# Altium schematic symbol library Schem_Lib_DaanHeetkamp..SchLib: 268 symbols (part 2 of 2)
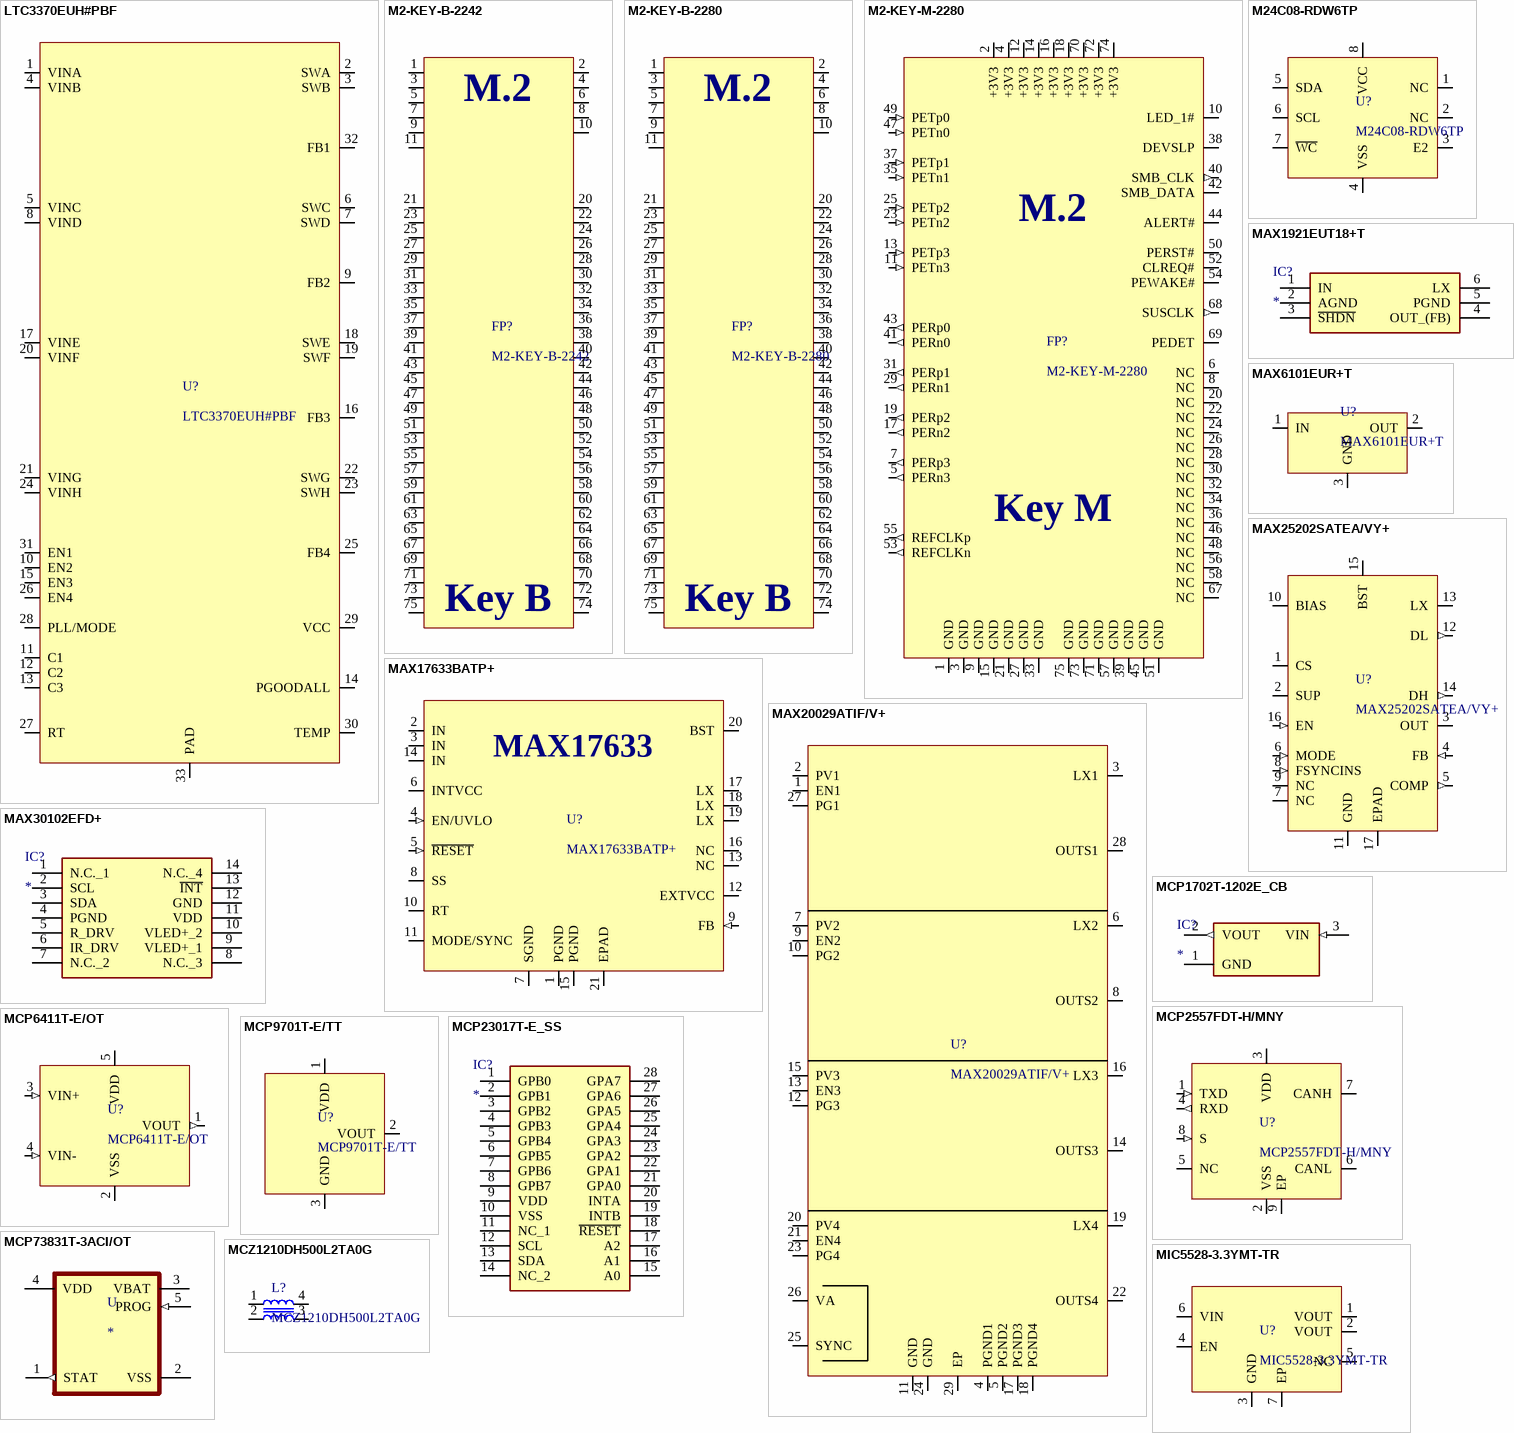
[diagram p13: symbols LTC3370EUH#PBF to MIC5528-3.3YMT-TR]

## MCP2557FDT-H/MNY
designator U?
CAN FD Transceiver with Silent Mode; Manufacturer: Microchip; Manufacturer Part Number: CAN FD Transceiver with Silent Mode
footprint TDFN-8
pins: 1 TXD (in), 2 VSS (power), 3 VDD (power), 4 RXD (out), 5 NC, 6 CANL (io), 7 CANH (io), 8 S (in), 9 EP (power)

## MCP6411T-E/OT
designator U?
Op Amp 1 MHz Rail-to-Rail Input/Output 1.7V to 5.5V 0.5V/us SOT-23-5; Manufacturer: Microchip; Manufacturer Part Number: MCP6411T-E/OT
footprint SOT-23-5 (SOT23, 5-Leads, Body 2,90x2,80mm, Pitch 0,95mm, IPC Medium Density)
pins: 1 VOUT (out), 2 VSS (power), 3 VIN+ (in), 4 VIN- (in), 5 VDD (power)

## MCP9701T-E/TT
designator U?
Temperature Sensor Analog -10 to +125 deg C SOT-23-3; Manufacturer: Microchip; Manufacturer Part Number: MCP9701T-E/TT
footprint SOT-23-3
pins: 1 VDD, 2 VOUT, 3 GND

## MCP23017T-E_SS
designator IC?
16-bit IO/Expander, I2C, Integrated Circuit; Manufacturer_Name: Microchip; Manufacturer_Part_Number: MCP23017T-E/SS; Datasheet Link: https://datasheet.datasheetarchive.com/originals/distributors/SFDatasheet-4/sf-00090057.pdf; Height: 2mm; Mouser Part Number: 579-MCP23017T-E/SS; Mouser Price/Stock: https://www.mouser.co.uk/ProductDetail/Microchip-Technology/MCP23017T-E-SS?qs=usxtMOJb1Rz2FhASIaFluQ%3D%3D; Arrow Part Number: MCP23017T-E/SS; Arrow Price/Stock: https://www.arrow.com/en/products/mcp23017t-ess/microchip-technology?region=nac
footprint SOP65P780X200-28N
pins: 1 GPB0, 2 GPB1, 3 GPB2, 4 GPB3, 5 GPB4, 6 GPB5, 7 GPB6, 8 GPB7, 9 VDD, 10 VSS, 11 NC_1, 12 SCL, 13 SDA, 14 NC_2, 15 A0, 16 A1, 17 A2, 18 ~{RESET}, 19 INTB, 20 INTA, 21 GPA0, 22 GPA1, 23 GPA2, 24 GPA3, 25 GPA4, 26 GPA5, 27 GPA6, 28 GPA7

## MCP73831T-3ACI/OT
designator U
Charger IC Lithium Ion/Polymer SOT-23-5; MP: MCP73831T-3ACI/OT; MF: Microchip; Package: SOT-23-5 Microchip; SnapEDA_Link: https://www.snapeda.com/parts/MCP73831T-3ACI/OT/Microchip/view-part/1099789/?ref=snap; Mouser-Purchase-URL: https://snapeda.com/shop?store=Mouser&id=1099789; Value: *; Arrow_Electronics-Purchase-URL: https://snapeda.com/shop?store=Arrow+Electronics&id=1099789
footprint SOT95P270X145-5N
pins: 1 STAT (out), 2 VSS (power), 3 VBAT (power), 4 VDD (power), 5 PROG (in)

## MCZ1210DH500L2TA0G
designator L?
Common Mode Chokes / Filters 0504 50ohms 2 Lines HDMI, DVI, USB3.0; Manufacturer: TDK; Manufacturer Part Number: MCZ1210DH500L2TA0G
footprint MCZ1210DH
pins: 1, 2, 3, 4

## MIC5528-3.3YMT-TR
designator U?
LDO Regulator 3V3 500mA 2.5V<Vin<5.5V; Manufacturer: Microchip; Manufacturer Part Number: MIC5528-3.3YMT-TR
footprint TDFN-6
pins: 1 VOUT, 2 VOUT, 3 GND, 4 EN, 5 NC, 6 VIN, 7 EP

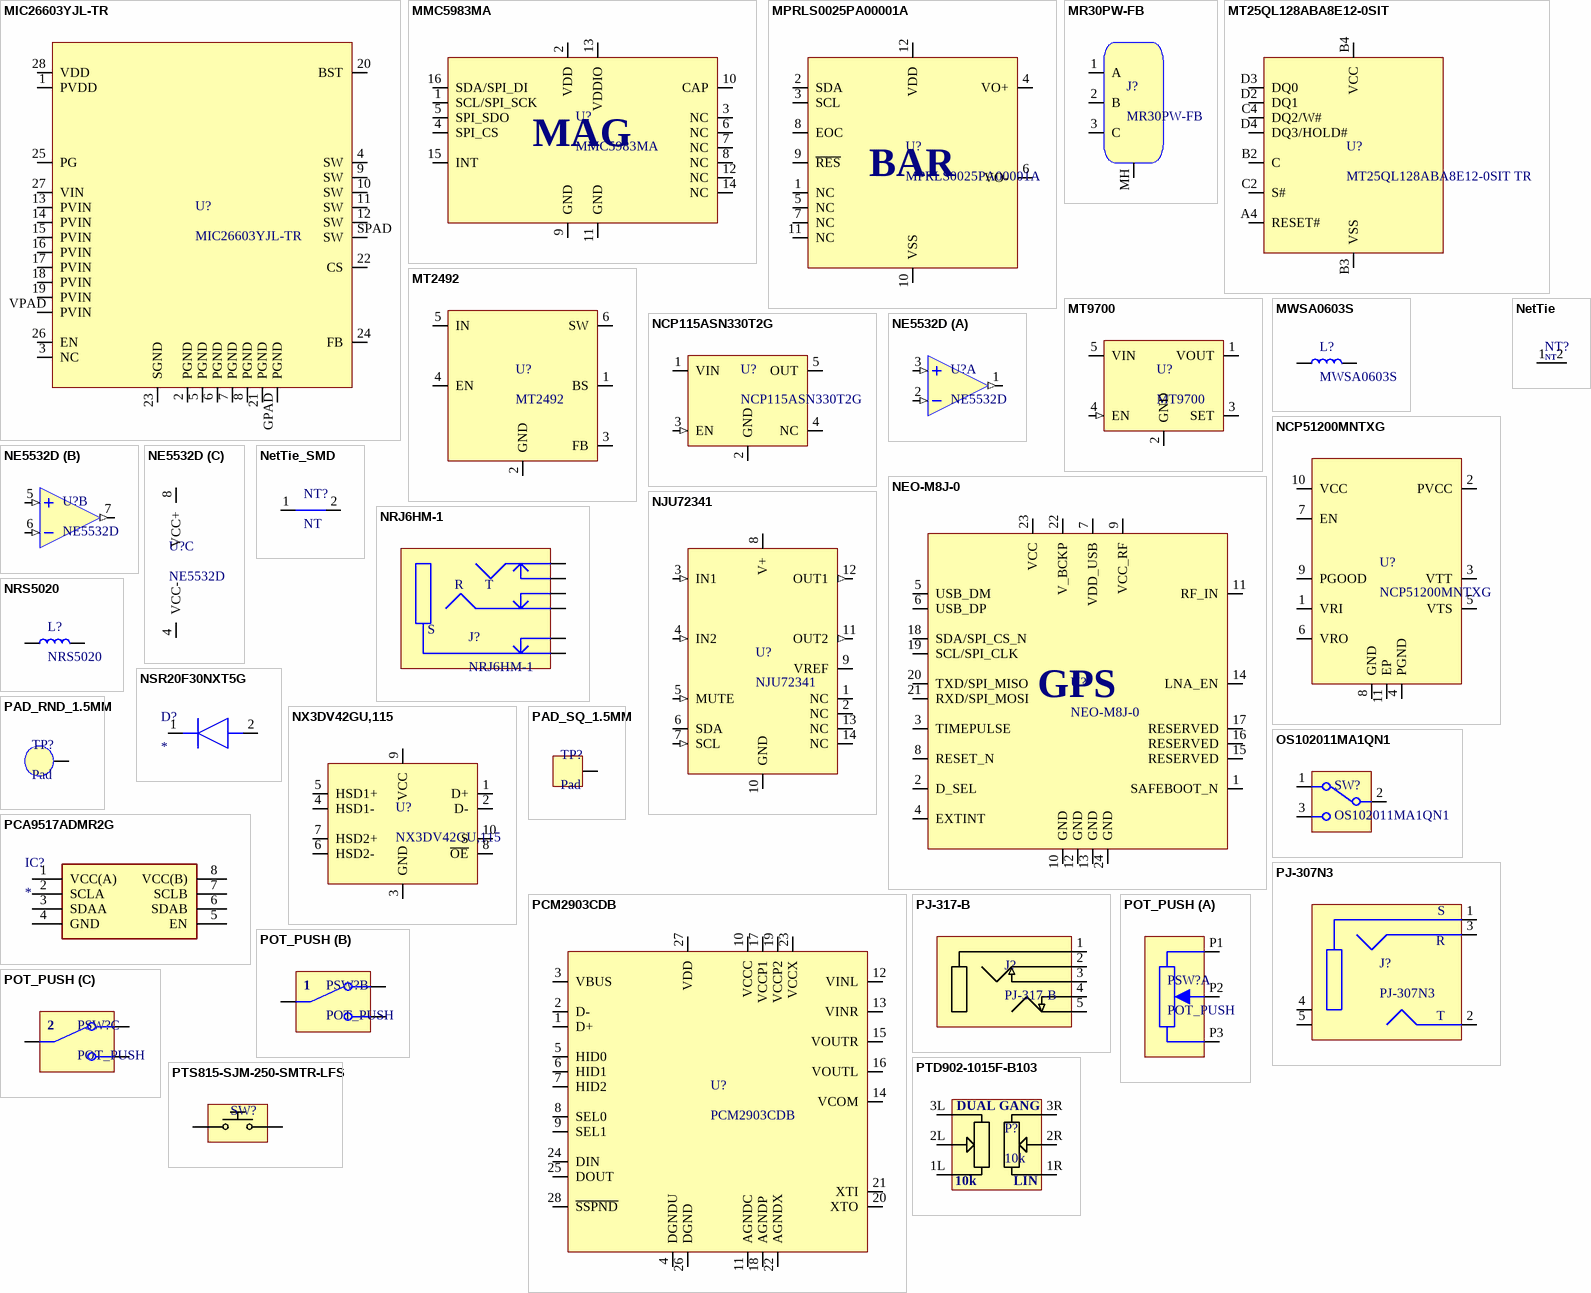
[diagram p6: symbols MIC26603YJL-TR to PTS815-SJM-250-SMTR-LFS]

## MIC26603YJL-TR
designator U?
DC/DC Buck Regulator 28V, 6A; Manufacturer: Microchip; Manufacturer Part Number: MIC26603YJL-TR
footprint MIC26603YJL-TR
pins: 1 PVDD, 2 PGND, 3 NC, 4 SW, 5 PGND, 6 PGND, 7 PGND, 8 PGND, 9 SW, 10 SW, 11 SW, 12 SW, 13 PVIN, 14 PVIN, 15 PVIN, 16 PVIN, 17 PVIN, 18 PVIN, 19 PVIN, 20 BST, 21 PGND, 22 CS, 23 SGND, 24 FB, 25 PG, 26 EN, 27 VIN, 28 VDD, GPAD PGND, SPAD SW, VPAD PVIN

## MMC5983MA
designator U?
±8 Gauss, High Performance 3-axis Magnetic Sensor I2C/SPI; Manufacturer: MEMSIC; Manufacturer Part Number: MMC5983MA
footprint MMC5983MA-LGA
pins: 1 SCL/SPI_SCK, 2 VDD, 3 NC, 4 SPI_CS, 5 SPI_SDO, 6 NC, 7 NC, 8 NC, 9 GND, 10 CAP, 11 GND, 12 NC, 13 VDDIO, 14 NC, 15 INT, 16 SDA/SPI_DI
text: MAG

## MPRLS0025PA00001A
designator U?
Board Mount Absolute Pressure Sensor Honeywell I2C 0 to 25 psi; Manufacturer: Honeywell; Manufacturer Part Number: MPRLS0025PA00001A
footprint MPR-SMD-12
pins: 1 NC, 2 SDA, 3 SCL, 4 VO+, 5 NC, 6 VO-, 7 NC, 8 EOC, 9 ~{RES}, 10 VSS, 11 NC, 12 VDD
text: BAR

## MR30PW-FB
designator J?
MR30 Connector Female 3 Position THT PCB-Mount 15A; Manufacturer: AMASS; Manufacturer Part Number: MR30PW-FB
footprint MR30PW-FB
pins: 1 A, 2 B, 3 C, MH

## MT25QL128ABA8E12-0SIT
designator U?, comment MT25QL128ABA8E12-0SIT TR
NOR Flash QSPI 128 Mbit T-PBGA-24; Manufacturer: Micron Technology; Manufacturer Part Number: MT25QL128ABA8E12-0SIT TR
footprint T-PBGA-5x5-6x8-24
pins: A4 RESET#, B2 C, B3 VSS, B4 VCC, C2 S#, C4 DQ2/W#, D2 DQ1, D3 DQ0, D4 DQ3/HOLD#

## MT2492
designator U?
600KHz, 16V，2A Synchronous / Step-Down Converter; Manufacturer: Aerosemi; Manufacturer Part Number: MT2492
footprint SOT-23-6
pins: 1 BS, 2 GND, 3 FB, 4 EN, 5 IN, 6 SW

## MT9700
designator U?
Adjustable Current-Limited Power Distribution Switch; Manufacturer: Aerosemi; Manufacturer Part Number: MT9700
footprint SOT-23-5 (SOT23, 5-Leads, Body 2,90x2,80mm, Pitch 0,95mm, IPC Medium Density)
pins: 1 VOUT (power), 2 GND (power), 3 SET, 4 EN (in), 5 VIN (power)

## MWSA0603S
designator L?
Power Inductor SMD Sunlord MWSA0603S; Manufacturer Part Number: MWSA0603S-; Manufacturer: Sunlord
footprint MWSA0603S
pins: 1, 2

## NCP115ASN330T2G
designator U?
LDO Regulator - High PSRR 300 mA 3.3V TSOP-5; Manufacturer: ON Semiconductor; Manufacturer Part Number: NCP115ASN330T2G
footprint TSOT25 (SOT23, 5-Leads, Body 2.90x2.80mm, Pitch 0.95mm, IPC Medium Density)
pins: 1 VIN (power), 2 GND (power), 3 EN (in), 4 NC, 5 OUT (power)

## NCP51200MNTXG
designator U?
Linear Voltage Regulator / 3A for DDR1, DDR2, DDR3, / LPDDR3, DDR4 VTT / Termination; Manufacturer: onsemi; Manufacturer Part Number: NCP51200MNTXG
footprint DFNW10-3x3-0_5P
pins: 1 VRI, 2 PVCC, 3 VTT, 4 PGND, 5 VTS, 6 VRO, 7 EN, 8 GND, 9 PGOOD, 10 VCC, 11 EP

## NE5532D
designator U?
Dual Low-Noise Operational Amplifiers; Manufacturer: Texas Instruments; Manufacturer Part Number: NE5532D
footprint SOIC-8 (SOIC, 8-Leads, Body 4.91x3.90mm, Pitch 1.27mm, IPC Medium Density)
part A pins: 1 1OUT (out), 2 1IN- (in), 3 1IN+ (in)
part B pins: 5 2IN+ (in), 6 2IN- (in), 7 2OUT (out)
part C pins: 4 VCC-, 8 VCC+

## NEO-M8J-0
designator U?
u-blox M8 concurrent GNSS module; Manufacturer: u-blox; Manufacturer Part Number: NEO-M8J-0
footprint NEO-M8
pins: 1 SAFEBOOT_N, 2 D_SEL, 3 TIMEPULSE, 4 EXTINT, 5 USB_DM, 6 USB_DP, 7 VDD_USB, 8 RESET_N, 9 VCC_RF, 10 GND, 11 RF_IN, 12 GND, 13 GND, 14 LNA_EN, 15 RESERVED, 16 RESERVED, 17 RESERVED, 18 SDA/SPI_CS_N, 19 SCL/SPI_CLK, 20 TXD/SPI_MISO, 21 RXD/SPI_MOSI, 22 V_BCKP, 23 VCC, 24 GND
text: GPS

## NetTie
designator NT?, comment NT  (value not drawn)  (net tie, no BOM)
Net Tie
footprint NETTIE
pins: 1, 2

## NetTie_SMD
designator NT?, comment NT  (net tie, no BOM)
Net Tie SMD
footprint NETTIE_SMD
pins: 1, 2

## NJU72341
designator U?
2-Channel Audio Volume Control I2C; Manufacturer: Nisshinbo; Manufacturer Part Number: NJU72341V-TE2
footprint SSOP-14
pins: 1 NC, 2 NC, 3 IN1 (in), 4 IN2 (in), 5 MUTE (in), 6 SDA (io), 7 SCL (in), 8 V+ (power), 9 VREF (power), 10 GND (power), 11 OUT2 (out), 12 OUT1 (out), 13 NC, 14 NC

## NRJ6HM-1
designator J?
1/4" Stereo Jack, TRS Switched; Manufacturer: Neutrik; Manufacturer Part Number: NRJ6HM-1
footprint NRJ6HM-1
pins: R, RN, S, SN, T, TN

## NRS5020
designator L?
NRS5020 SMD Power Inductor Taiyo Yuden; Manufacturer: Taiyo Yuden; Manufacturer Part Number: NRS5020
footprint NRS5020
pins: 1, 2

## NSR20F30NXT5G
designator D?
Diode; Manufacturer_Name: onsemi; Manufacturer_Part_Number: NSR20F30NXT5G; Datasheet Link: http://www.onsemi.com/pub/Collateral/NSR20F30-D.PDF; Mouser Part Number: 863-NSR20F30NXT5G; Mouser Price/Stock: https://www.mouser.co.uk/ProductDetail/onsemi/NSR20F30NXT5G?qs=3ezCrKCRT5K%2FARb%252BJ8n8Hg%3D%3D; Arrow Part Number: NSR20F30NXT5G; Arrow Price/Stock: https://www.arrow.com/en/products/nsr20f30nxt5g/on-semiconductor?region=nac
footprint DSN2_1
pins: 1 K, 2 A

## NX3DV42GU,115
designator U?
USB2.0 HS DPDT Switch; Manufacturer: NXP Semiconductors; Manufacturer Part Number: NX3DV42GU,115
footprint XQFN-10_SOT1160-1
pins: 1 D+, 2 D-, 3 GND, 4 HSD1-, 5 HSD1+, 6 HSD2-, 7 HSD2+, 8 ~{OE}, 9 VCC, 10 S

## OS102011MA1QN1
designator SW?
Slide Switch SPDT Horizontal THT; Manufacturer: C&K; Manufacturer Part Number: OS102011MA1QN1
footprint OS102011MA1QN1
pins: 1, 2 COM, 3

## PAD_RND_1.5MM
designator TP?, comment Pad
Test Point Round 1.5mm
footprint PAD_RND_1.5MM
pins: 1

## PAD_SQ_1.5MM
designator TP?, comment Pad
Test Point Square 2mm
footprint PAD_SQ_1.5MM
pins: 1

## PCA9517ADMR2G
designator IC?
Integrated Circuit; Manufacturer_Name: onsemi; Manufacturer_Part_Number: PCA9517ADMR2G; Datasheet Link: https://www.arrow.com/en/products/pca9517admr2g/on-semiconductor; Height: 1.1mm; Mouser Part Number: 863-PCA9517ADMR2G; Mouser Price/Stock: https://www.mouser.co.uk/ProductDetail/onsemi/PCA9517ADMR2G?qs=tCMd4XlZ%2FiBws0nQ3cmpKw%3D%3D; Arrow Part Number: PCA9517ADMR2G; Arrow Price/Stock: https://www.arrow.com/en/products/pca9517admr2g/on-semiconductor?region=nac
footprint SOP65P490X110-8N
pins: 1 VCC(A), 2 SCLA, 3 SDAA, 4 GND, 5 EN, 6 SDAB, 7 SCLB, 8 VCC(B)

## PCM2903CDB
designator U?
Stereo USB1.1 CODEC with line-out and S/PDIF I/O, Self-powered (HID Interface); Manufacturer: Texas Instruments; Manufacturer Part Number: PCM2903CDB
footprint SSOP-28
pins: 1 D+, 2 D-, 3 VBUS, 4 DGNDU, 5 HID0, 6 HID1, 7 HID2, 8 SEL0, 9 SEL1, 10 VCCC, 11 AGNDC, 12 VINL, 13 VINR, 14 VCOM, 15 VOUTR, 16 VOUTL, 17 VCCP1, 18 AGNDP, 19 VCCP2, 20 XTO, 21 XTI, 22 AGNDX, 23 VCCX, 24 DIN, 25 DOUT, 26 DGND, 27 VDD, 28 ~{SSPND}

## PJ-307N3
designator J?
3.5mm Headphone Jack THT; Manufacturer: XKB Connectivity; Manufacturer Part Number: PJ-307N3
footprint PJ-307N3
pins: 1 Sleeve, 2 Tip, 3 Ring, 4 NC, 5 NC
text: S; R; T

## PJ-317-B
designator J?
3.5mm 5-Position Audio Jack Horizontal Female THT; Manufacturer: XKB; Manufacturer Part Number: PJ-317-B
footprint PJ-317-B
pins: 1, 2, 3, 4, 5

## POT_PUSH
designator PSW?
Potentiometer Push-Pull/Push-Push Through-Hole Generic; Manufacturer: *; Manufacturer Part Number: *
footprint POT_PUSH
part A pins: P1 1, P2 2, P3 3
part B pins: SW1COM COM, SW1NC NC, SW1NO NO
part C pins: SW2COM COM, SW2NC NC, SW2NO NO

## PTD902-1015F-B103
designator P?, comment 10k
Potentiometer Horizontal 10k Dual Gang Linear Taper 10% THT PCB-Mount; Manufacturer: Bourns; Manufacturer Part Number: PTD902-1015F-B103
footprint PTD902-XX15F
pins: 1L 1, 1R 1, 2L 2, 2R 2, 3L 3, 3R 3
text: DUAL GANG; LIN

## PTS815-SJM-250-SMTR-LFS
designator SW?, comment Tactile Switch  (value not drawn)
Tactile Switches Tact Switch, 12 VDC, 50 mA, 4.2x3.2, 2.5mm H, 180gf, J leadspp SPST; Manufacturer: C&K Switches; Manufacturer Part Number: PTS815 SJM 250 SMTR LFS
footprint PTS815
pins: 1, 2

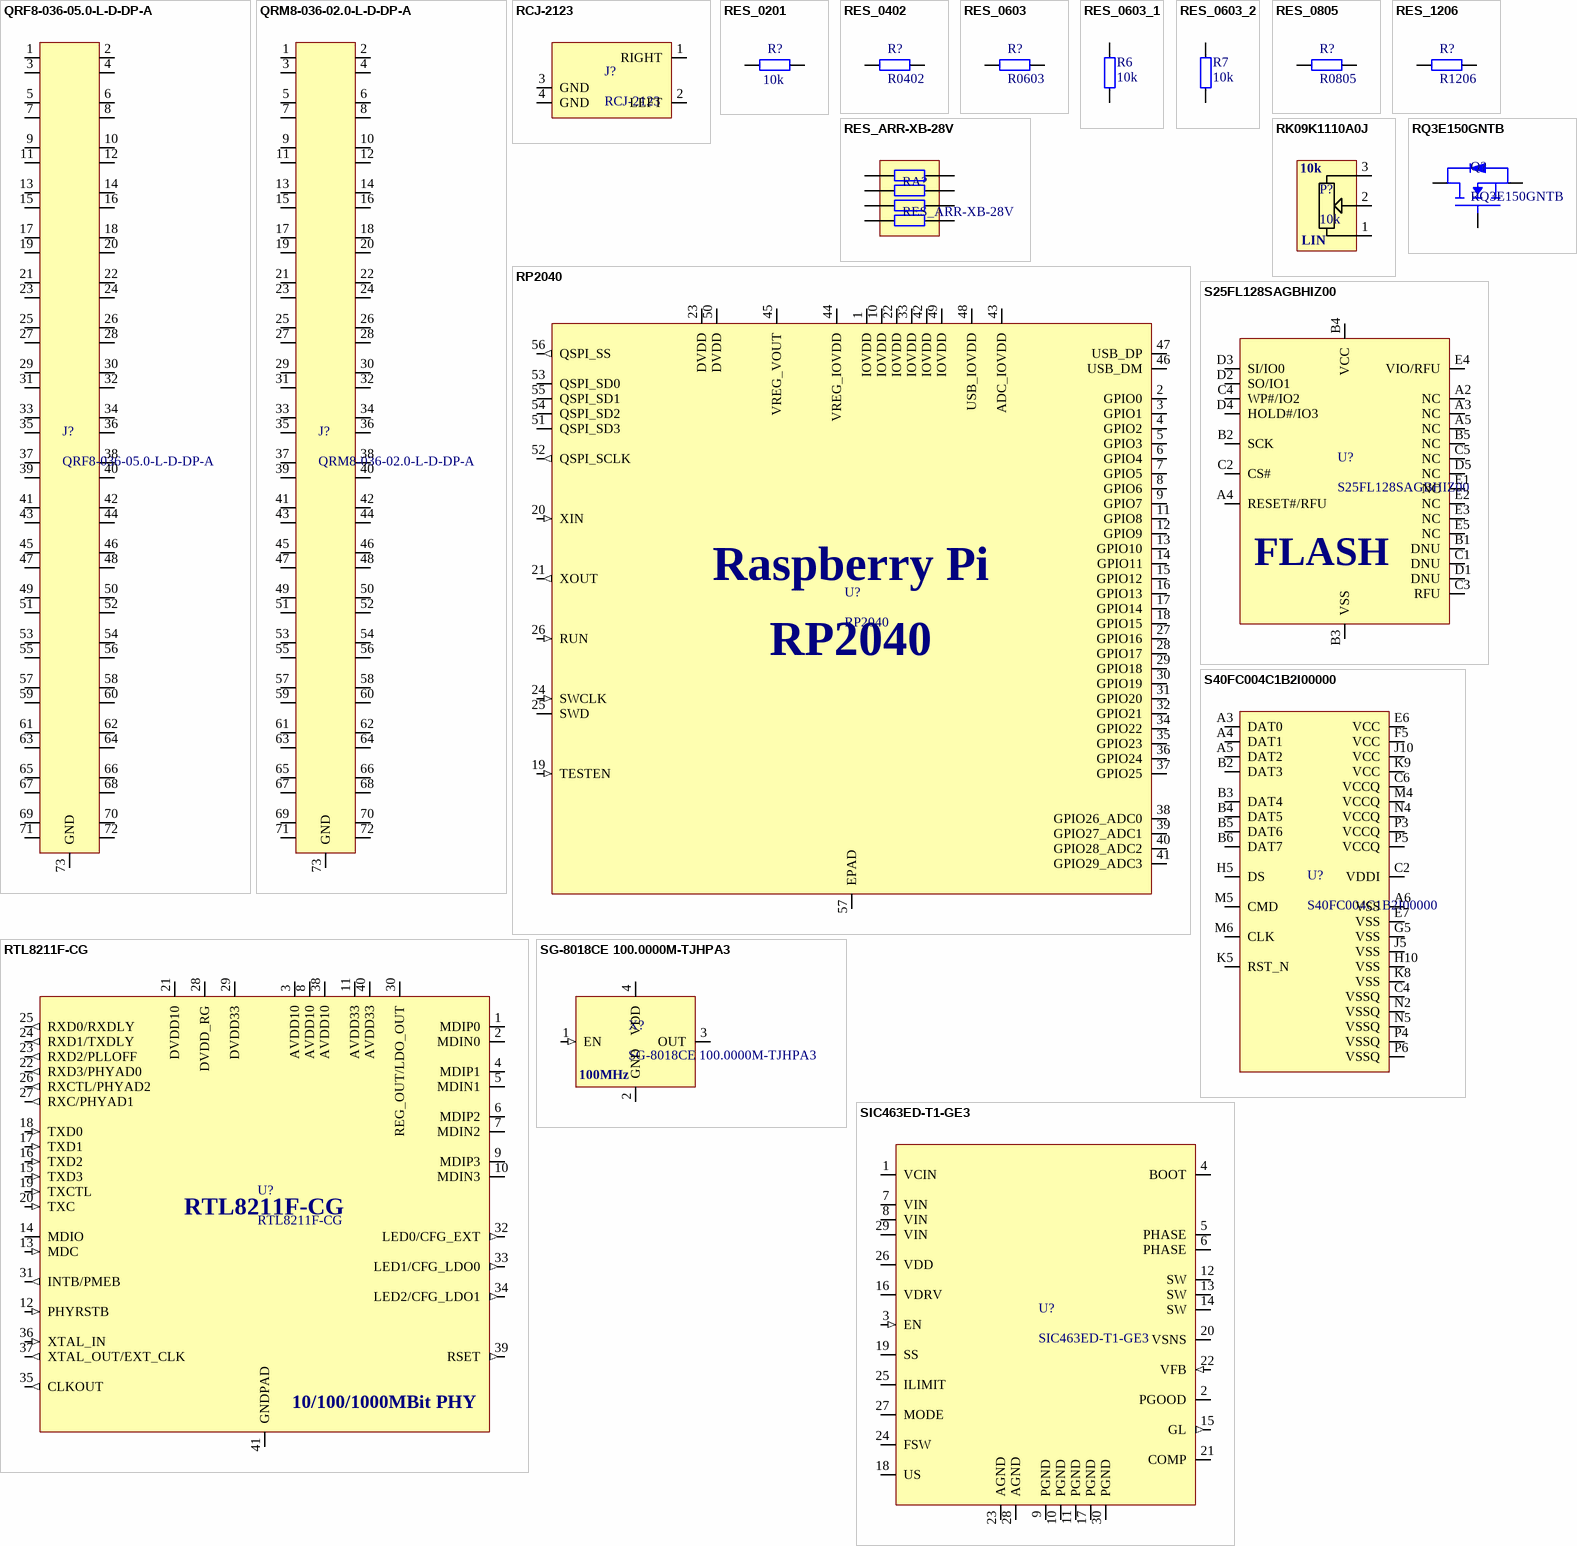
[diagram p7: symbols QRF8-036-05.0-L-D-DP-A to SIC463ED-T1-GE3]

## QRF8-036-05.0-L-D-DP-A
designator J?
Board to Board & Mezzanine Connectors 0.80 mm Q Rate Slim Body Ground Plane Socket; Manufacturer: Samtec; Manufacturer Part Number: QRF8-036-05.0-L-D-DP-A
footprint QRF8-036-05.0-X-D-DP-A
pins: 1, 2, 3, 4, 5, 6, 7, 8, 9, 10, 11, 12, 13, 14, 15, 16, 17, 18, 19, 20, 21, 22, 23, 24, 25, 26, 27, 28, 29, 30, 31, 32, 33, 34, 35, 36, 37, 38, 39, 40, 41, 42, 43, 44, 45, 46, 47, 48, 49, 50, 51, 52, 53, 54, 55, 56, 57, 58, 59, 60, 61, 62, 63, 64, 65, 66, 67, 68, 69, 70, 71, 72, 73 GND

## QRM8-036-02.0-L-D-DP-A
designator J?
Board to Board & Mezzanine Connectors 0.80 mm Q Rate Slim Body Ground Plane Header; Manufacturer: Samtec; Manufacturer Part Number: QRM8-036-02.0-L-D-DP-A
footprint QRM8-036-02.0-L-D-DP-A
pins: 1, 2, 3, 4, 5, 6, 7, 8, 9, 10, 11, 12, 13, 14, 15, 16, 17, 18, 19, 20, 21, 22, 23, 24, 25, 26, 27, 28, 29, 30, 31, 32, 33, 34, 35, 36, 37, 38, 39, 40, 41, 42, 43, 44, 45, 46, 47, 48, 49, 50, 51, 52, 53, 54, 55, 56, 57, 58, 59, 60, 61, 62, 63, 64, 65, 66, 67, 68, 69, 70, 71, 72, 73 GND

## RCJ-2123
designator J?
RCA Phono Connectors Dual Red White PCB Mount RIght-Angle THT; Manufacturer: CUI; Manufacturer Part Number: RCJ-2123
footprint RCJ-2123
pins: 1 RIGHT, 2 LEFT, 3 GND, 4 GND

## RES_0201
designator R?, comment value 10k  (hidden comment: YAGEO 0201 Ω)
Resistor SMD 0201 YAGEO
footprint RES_0201
pins: 1, 2

## RES_0402
designator R?, comment R0402
Resistor SMD 0402
footprint RES_0402
pins: 1, 2

## RES_0603
designator R?, comment R0603
Resistor SMD 0603
footprint RES_0603
pins: 1, 2

## RES_0603_1
designator R6, comment 10k
Resistor SMD 0603
footprint RES_0603
pins: 1, 2

## RES_0603_2
designator R7, comment 10k
Resistor SMD 0603
footprint RES_0603
pins: 1, 2

## RES_0805
designator R?, comment R0805
Resistor SMD 0805
footprint RES_0805
pins: 1, 2

## RES_1206
designator R?, comment R1206
Resistor SMD 1206
footprint RES_1206
pins: 1, 2

## RES_ARR-XB-28V
designator RA?
Resistor Array 0804 4 Elements Panasonic EXB-28V; Manufacturer: Panasonic
footprint EXB-28V
pins: 1, 2, 3, 4, 5, 6, 7, 8

## RK09K1110A0J
designator P?, comment 10k
Potentiometer Horizontal 10k Linear Taper (1B) 20% THT PCB-Mount; Manufacturer: ALPSALPINE; Manufacturer Part Number: RK09K1110A0J
footprint RK09K1110A0J
pins: 1, 2, 3
text: LIN

## RP2040
designator U?
32-Bit Dual-Core ARM Cortex-M0+ Microcontroller; Manufacturer: Raspberry Pi; Manufacturer Part Number: RP2040
footprint QFN-56-EP
pins: 1 IOVDD (power), 2 GPIO0 (io), 3 GPIO1 (io), 4 GPIO2 (io), 5 GPIO3 (io), 6 GPIO4 (io), 7 GPIO5 (io), 8 GPIO6 (io), 9 GPIO7 (io), 10 IOVDD (power), 11 GPIO8 (io), 12 GPIO9 (io), 13 GPIO10 (io), 14 GPIO11 (io), 15 GPIO12 (io), 16 GPIO13 (io), 17 GPIO14 (io), 18 GPIO15 (io), 19 TESTEN (in), 20 XIN (in), 21 XOUT (out), 22 IOVDD (power), 23 DVDD (power), 24 SWCLK (in), 25 SWD (io), 26 RUN (in), 27 GPIO16 (io), 28 GPIO17 (io), 29 GPIO18 (io), 30 GPIO19 (io), 31 GPIO20 (io), 32 GPIO21 (io), 33 IOVDD (power), 34 GPIO22 (io), 35 GPIO23 (io), 36 GPIO24 (io), 37 GPIO25 (io), 38 GPIO26_ADC0 (io), 39 GPIO27_ADC1 (io), 40 GPIO28_ADC2 (io), 41 GPIO29_ADC3 (io), 42 IOVDD (power), 43 ADC_IOVDD (power), 44 VREG_IOVDD (power), 45 VREG_VOUT (power), 46 USB_DM (io), 47 USB_DP (io), 48 USB_IOVDD (power), 49 IOVDD (power), 50 DVDD (power), 51 QSPI_SD3 (io), 52 QSPI_SCLK (out), 53 QSPI_SD0 (io), 54 QSPI_SD2 (io), 55 QSPI_SD1 (io), 56 QSPI_SS (out), 57 EPAD (power)

## RQ3E150GNTB
designator Q?
Nch 30V 39A Middle Power MOSFET; Manufacturer: ROHM; Manufacturer Part Number: RQ3E150GNTB
footprint HSMT-8
pins: D, G, S

## RTL8211F-CG
designator U?
INTEGRATED 10/100/1000M ETHERNET PRECISION TRANSCEIVER; Manufacturer: Realtek; Manufacturer Part Number: RTL8211F-CG
footprint QFN-40-0.4-EP (QFN 40 Pads 0.4mm Pitch Thermal Pad)
pins: 1 MDIP0 (io), 2 MDIN0 (io), 3 AVDD10 (power), 4 MDIP1 (io), 5 MDIN1 (io), 6 MDIP2 (io), 7 MDIN2 (io), 8 AVDD10 (power), 9 MDIP3 (io), 10 MDIN3 (io), 11 AVDD33 (power), 12 PHYRSTB (in), 13 MDC (in), 14 MDIO (io), 15 TXD3 (in), 16 TXD2 (in), 17 TXD1 (in), 18 TXD0 (in), 19 TXCTL (in), 20 TXC (in), 21 DVDD10 (power), 22 RXD3/PHYAD0 (out), 23 RXD2/PLLOFF (out), 24 RXD1/TXDLY (out), 25 RXD0/RXDLY (out), 26 RXCTL/PHYAD2 (out), 27 RXC/PHYAD1 (out), 28 DVDD_RG (power), 29 DVDD33 (power), 30 REG_OUT/LDO_OUT (power), 31 INTB/PMEB (out), 32 LED0/CFG_EXT (out), 33 LED1/CFG_LDO0 (out), 34 LED2/CFG_LDO1 (out), 35 CLKOUT (out), 36 XTAL_IN (in), 37 XTAL_OUT/EXT_CLK (out), 38 AVDD10 (power), 39 RSET (out), 40 AVDD33 (power), 41 GNDPAD (power)
text: 10/100/1000MBit PHY

## S25FL128SAGBHIZ00
designator U?
NOR Flash 128Mb 133MHz QSPl; Manufacturer: Cypress Semiconductor; Manufacturer Part Number: S25FL128SAGBHIZ00
footprint BGA25C100P5X5_600X800X120 (BGA, 25-Leads, Body 6.00x8.00mmx1.20mm, Pitch 1.00mm)
pins: A2 NC, A3 NC, A4 RESET#/RFU, A5 NC, B1 DNU, B2 SCK, B3 VSS, B4 VCC, B5 NC, C1 DNU, C2 CS#, C3 RFU, C4 WP#/IO2, C5 NC, D1 DNU, D2 SO/IO1, D3 SI/IO0, D4 HOLD#/IO3, D5 NC, E1 NC, E2 NC, E3 NC, E4 VIO/RFU, E5 NC
text: FLASH

## S40FC004C1B2I00000
designator U?
eMMC MLC Memory 4GB 3V3; Manufacturer: SkyHigh Memory; Manufacturer Part Number: S40FC004C1B2I00000
footprint VFBGA153-9.0x7.5x0.8
pins: A3 DAT0, A4 DAT1, A5 DAT2, A6 VSS, B2 DAT3, B3 DAT4, B4 DAT5, B5 DAT6, B6 DAT7, C2 VDDI, C4 VSSQ, C6 VCCQ, E6 VCC, E7 VSS, F5 VCC, G5 VSS, H5 DS, H10 VSS, J5 VSS, J10 VCC, K5 RST_N, K8 VSS, K9 VCC, M4 VCCQ, M5 CMD, M6 CLK, N2 VSSQ, N4 VCCQ, N5 VSSQ, P3 VCCQ, P4 VSSQ, P5 VCCQ, P6 VSSQ

## SG-8018CE 100.0000M-TJHPA3
designator X?
Standard Clock Oscillators 100 MHz 1.8V-3.3V 15PF 50PPM 3.2mm x 2.5mm; Manufacturer: Epson; Manufacturer Part Number: SG-8018CE 100.0000M-TJHPA3
footprint XTAL_3225
pins: 1 EN (in), 2 GND (power), 3 OUT, 4 VDD (power)
text: 100MHz

## SIC463ED-T1-GE3
designator U?
4.5 V to 60 V Input, 4 A microBUCK® DC/DC Converter; Manufacturer: Vishay; Manufacturer Part Number: SIC463ED-T1-GE3
footprint MLP55-27L
pins: 1 VCIN (power), 2 PGOOD (oc), 3 EN (in), 4 BOOT (power), 5 PHASE (power), 6 PHASE (power), 7 VIN (power), 8 VIN (power), 9 PGND (power), 10 PGND (power), 11 PGND (power), 12 SW (power), 13 SW (power), 14 SW (power), 15 GL (out), 16 VDRV (power), 17 PGND (power), 18 US, 19 SS, 20 VSNS (power), 21 COMP, 22 VFB (in), 23 AGND (power), 24 FSW, 25 ILIMIT, 26 VDD (power), 27 MODE, 28 AGND (power), 29 VIN (power), 30 PGND (power)

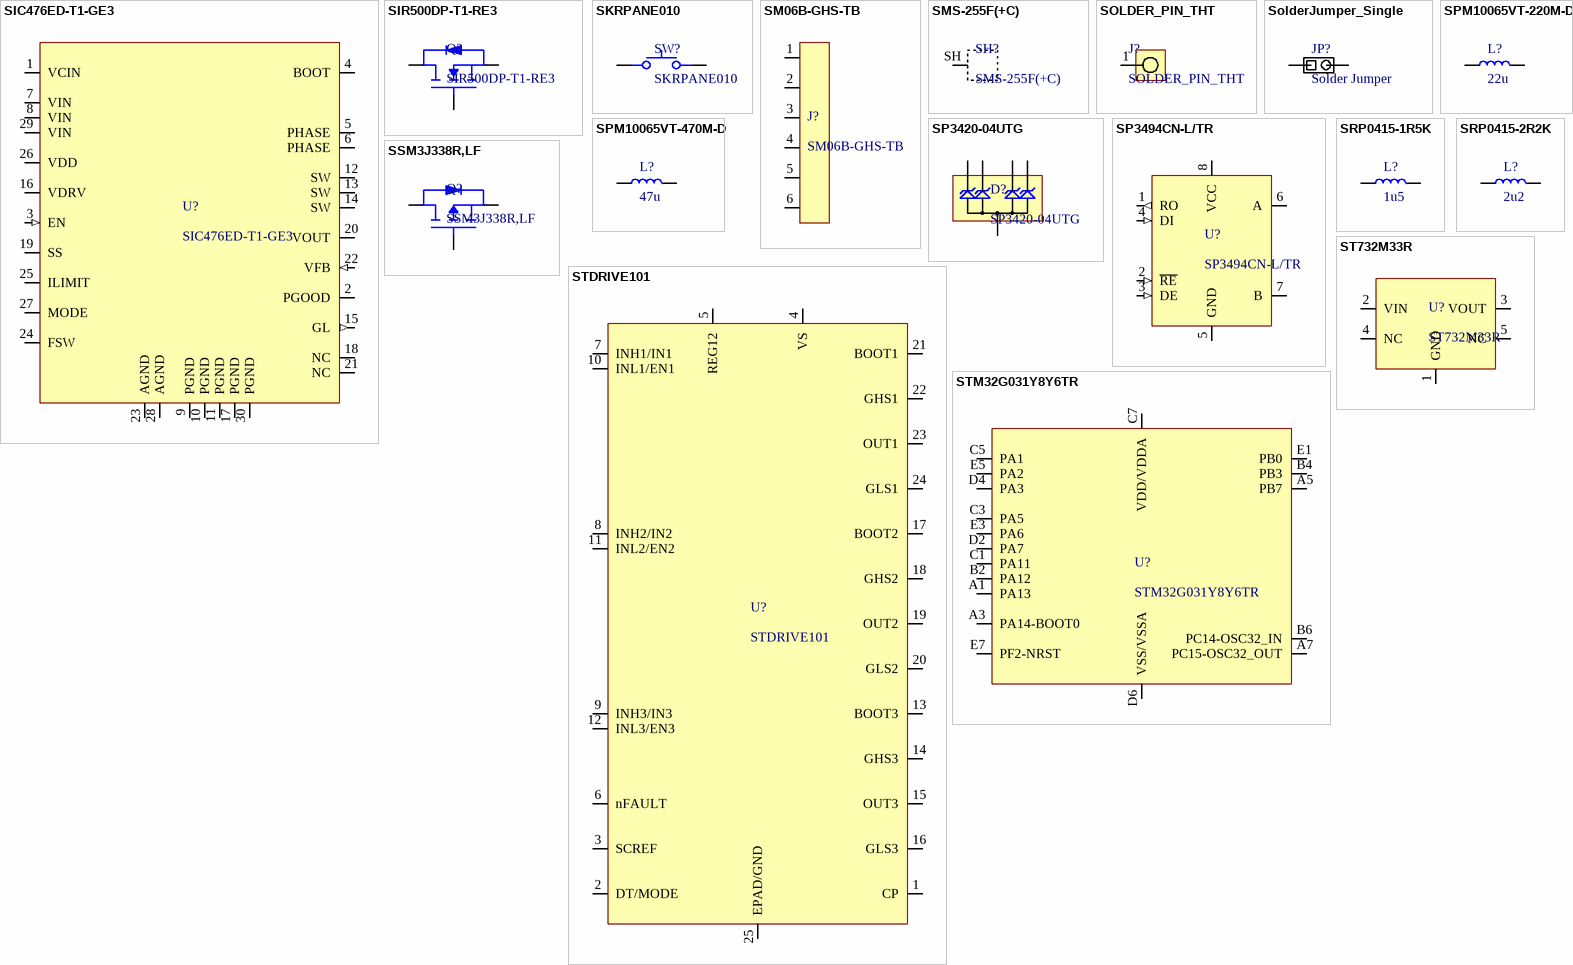
[diagram p8: symbols SIC476ED-T1-GE3 to STM32G031Y8Y6TR]

## SIC476ED-T1-GE3
designator U?
4.5 V to 55 V Input, 3 A, 5 A, 8 A, 12 A microBUCK® DC/DC Converter; Manufacturer: Vishay; Manufacturer Part Number: SIC476ED-T1-GE3
footprint MLP55-27L
pins: 1 VCIN (power), 2 PGOOD (oc), 3 EN (in), 4 BOOT (power), 5 PHASE (power), 6 PHASE (power), 7 VIN (power), 8 VIN (power), 9 PGND (power), 10 PGND (power), 11 PGND (power), 12 SW (power), 13 SW (power), 14 SW (power), 15 GL (out), 16 VDRV (power), 17 PGND (power), 18 NC, 19 SS, 20 VOUT (power), 21 NC, 22 VFB (in), 23 AGND (power), 24 FSW, 25 ILIMIT, 26 VDD (power), 27 MODE, 28 AGND (power), 29 VIN (power), 30 PGND (power)

## SIR500DP-T1-RE3
designator Q?
MOSFET N-Channel Vds=30V Id=351A Rds=470uR; Manufacturer: Vishay; Manufacturer Part Number: SIR500DP-T1-RE3
footprint PowerPAK-SO-8
pins: D, G, S

## SKRPANE010
designator SW?
Tactile Switch SMD SPST; Manufacturer: Alps Alpine; Manufacturer Part Number: SKRPANE010
footprint SKRPANE010
pins: 12, 34

## SM06B-GHS-TB
designator J?
Header Connector 6 Position 1.25MM Pitch SMD Horizontal JST GH; Manufacturer: JST; Manufacturer Part Number: SM06B-GHS-TB
footprint Model Name (Footprint not found)
footprint SM06B-GHS-TB
pins: 1, 2, 3, 4, 5, 6

## SMS-255F(+C)
designator SH?
RF Shield 19.05mm x 19.05mm x 5.08mm / SMS-255F = Frame / SMS-255C = Cover; Manufacturer: LeaderTech; Manufacturer Part Number: SMS-255F
footprint SMS-255F
pins: SH

## SOLDER_PIN_THT
designator J?
Solder Pin 1.5mm Through-Hole
footprint SOLDER_PIN_THT_1_5
pins: 1

## SolderJumper_Single
designator JP?, comment Solder Jumper
Solder Jumper Single 0.5mm Pitch
footprint SolderJumper_Single
pins: 1, 2

## SP3420-04UTG
designator D?
TVS Diode Array Low Capacitance ESD Protection 4-Channel (Vwork=3V3, Vclamp=6V); Manufacturer: Littelfuse; Manufacturer Part Number: SP3420-04UTG
footprint uDFN-10
pins: 29, 38 GND, 47, 56, 110

## SP3494CN-L/TR
designator U?
3.3V Low Power RS-485 / RS-422 Transceiver SOIC-8; Manufacturer: MaxLinear; Manufacturer Part Number: SP3494CN-L/TR
footprint SOIC-8 (SOIC, 8-Leads, Body 4.91x3.90mm, Pitch 1.27mm, IPC Medium Density)
pins: 1 RO (out), 2 ~{RE} (in), 3 DE (in), 4 DI (in), 5 GND (power), 6 A (io), 7 B (io), 8 VCC (power)

## SPM10065VT-220M-D
designator L?, comment 22u
Inductor SMD 22uH 5.4A 20%; Manufacturer: TDK; Manufacturer Part Number: SPM10065VT-220M-D
footprint SPM10065VT-220M-D
pins: 1, 2

## SPM10065VT-470M-D
designator L?, comment 47u
Inductor SMD 47uH 4A 20%; Manufacturer: TDK; Manufacturer Part Number: SPM10065VT-470M-D
footprint SPM10065VT-220M-D
pins: 1, 2

## SRP0415-1R5K
designator L?, comment 1u5
Inductor SMD 1.5uH Bourns SRP0415-1R5K; Manufacturer: Bourns; Manufacturer Part Number: SRP0415-1R5K
footprint SRP0415
pins: 1, 2

## SRP0415-2R2K
designator L?, comment 2u2
Inductor SMD 2.2uH Bourns SRP0415-2R2K; Manufacturer: Bourns; Manufacturer Part Number: SRP0415-2R2K
footprint SRP0415
pins: 1, 2

## SSM3J338R,LF
designator Q?
MOSFET P-Channel Vds=12V Id=6A; Manufacturer Part Number: Toshiba; Manufacturer: SSM3J338R,LF
footprint SSM3J338R,LF-SOT23-F
pins: D, G, S

## ST732M33R
designator U?
300 mA, 28 V LDO low-dropout voltage regulator, with 5 µA quiescent current; Manufacturer: STMicroelectronics; Manufacturer Part Number: ST732M33R
footprint SOT-23-5 (SOT23, 5-Leads, Body 2,90x2,80mm, Pitch 0,95mm, IPC Medium Density)
pins: 1 GND (power), 2 VIN (power), 3 VOUT (power), 4 NC, 5 NC

## STDRIVE101
designator U?
Gate Driver 3x Half-Bridge; Manufacturer: STMicroelectronics; Manufacturer Part Number: STDRIVE101
footprint VFQFPN24_4X4X1 (QFN, 24-Leads, Body 4,00x4,00mm, Pitch 0,50mm, Thermal Pad 2,50x2,50mm, IPC Medium Density)
pins: 1 CP, 2 DT/MODE, 3 SCREF, 4 VS, 5 REG12, 6 nFAULT, 7 INH1/IN1, 8 INH2/IN2, 9 INH3/IN3, 10 INL1/EN1, 11 INL2/EN2, 12 INL3/EN3, 13 BOOT3, 14 GHS3, 15 OUT3, 16 GLS3, 17 BOOT2, 18 GHS2, 19 OUT2, 20 GLS2, 21 BOOT1, 22 GHS1, 23 OUT1, 24 GLS1, 25 EPAD/GND

## STM32G031Y8Y6TR
designator U?
ARM Microcontrollers - MCU Mainstream Arm Cortex-M0+ MCU 64 Kbytes of Flash 8 Kbytes RAM, 64 MHz CPU STM32; Manufacturer: STMicroelectronics; Manufacturer Part Number: STM32G031Y8Y6TR
footprint WLCSP18
pins: A1 PA13, A3 PA14-BOOT0, A5 PB7, A7 PC15-OSC32_OUT, B2 PA12, B4 PB3, B6 PC14-OSC32_IN, C1 PA11, C3 PA5, C5 PA1, C7 VDD/VDDA (power), D2 PA7, D4 PA3, D6 VSS/VSSA (power), E1 PB0, E3 PA6, E5 PA2, E7 PF2-NRST

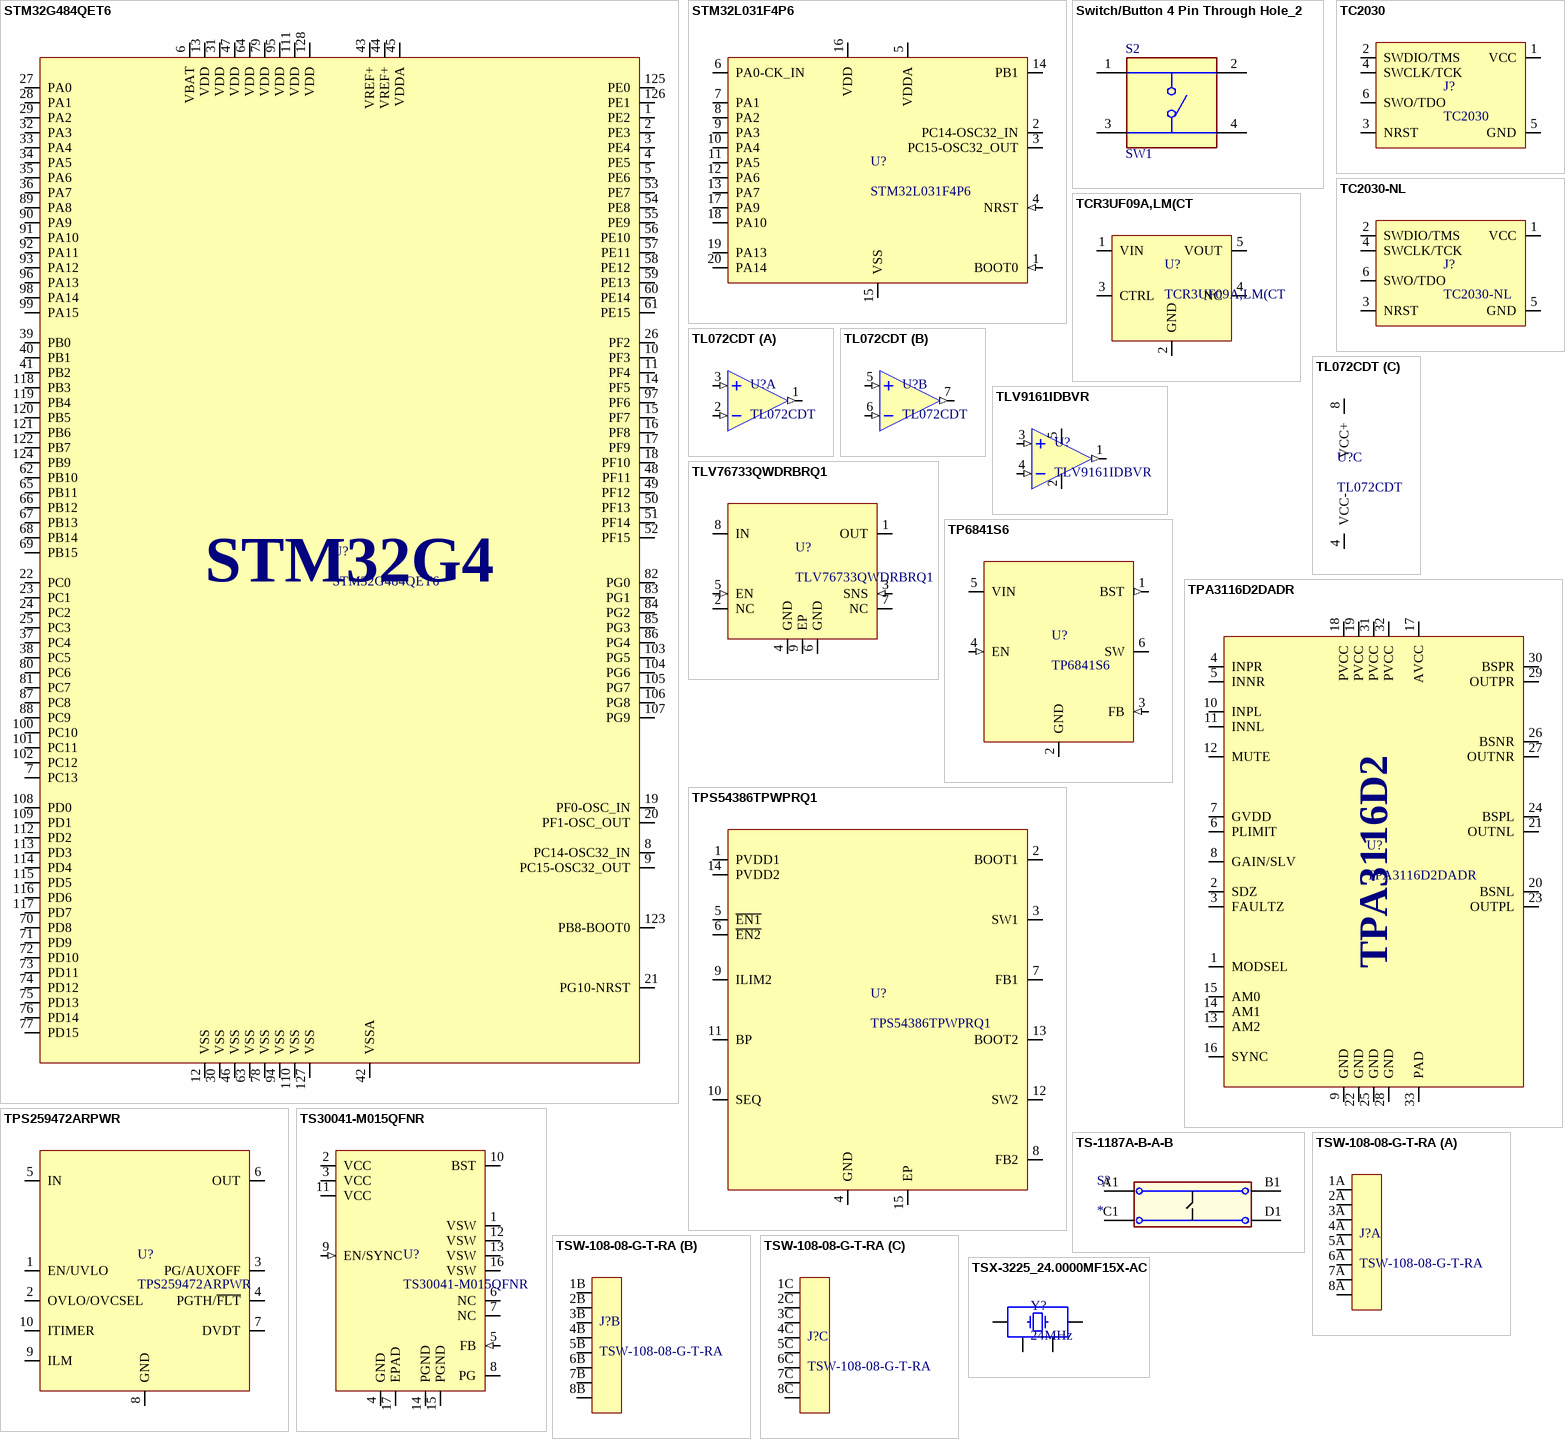
[diagram p9: symbols STM32G484QET6 to TSX-3225_24.0000MF15X-AC]

## STM32G484QET6
designator U?
STM32G4 Microcontroller LQFP-128 170 MHz 107 I/O; Manufacturer: STMicroelectronics; Manufacturer Part Number: STM32G484QET6
footprint LQFP-128 (CQFP, 128-Leads, Body 16,00x16,00mm, Pitch 0,40mm, IPC Medium Density)
pins: 1 PE2, 2 PE3, 3 PE4, 4 PE5, 5 PE6, 6 VBAT, 7 PC13, 8 PC14-OSC32_IN, 9 PC15-OSC32_OUT, 10 PF3, 11 PF4, 12 VSS, 13 VDD, 14 PF5, 15 PF7, 16 PF8, 17 PF9, 18 PF10, 19 PF0-OSC_IN, 20 PF1-OSC_OUT, 21 PG10-NRST, 22 PC0, 23 PC1, 24 PC2, 25 PC3, 26 PF2, 27 PA0, 28 PA1, 29 PA2, 30 VSS, 31 VDD, 32 PA3, 33 PA4, 34 PA5, 35 PA6, 36 PA7, 37 PC4, 38 PC5, 39 PB0, 40 PB1, 41 PB2, 42 VSSA, 43 VREF+, 44 VREF+, 45 VDDA, 46 VSS, 47 VDD, 48 PF11, 49 PF12, 50 PF13, 51 PF14, 52 PF15, 53 PE7, 54 PE8, 55 PE9, 56 PE10, 57 PE11, 58 PE12, 59 PE13, 60 PE14, 61 PE15, 62 PB10, 63 VSS, 64 VDD, 65 PB11, 66 PB12, 67 PB13, 68 PB14, 69 PB15, 70 PD8, 71 PD9, 72 PD10, 73 PD11, 74 PD12, 75 PD13, 76 PD14, 77 PD15, 78 VSS, 79 VDD, 80 PC6, 81 PC7, 82 PG0, 83 PG1, 84 PG2, 85 PG3, 86 PG4, 87 PC8, 88 PC9, 89 PA8, 90 PA9, 91 PA10, 92 PA11, 93 PA12, 94 VSS, 95 VDD, 96 PA13, 97 PF6, 98 PA14, 99 PA15, 100 PC10, 101 PC11, 102 PC12, 103 PG5, 104 PG6, 105 PG7, 106 PG8, 107 PG9, 108 PD0, 109 PD1, 110 VSS, 111 VDD, 112 PD2, 113 PD3, 114 PD4, 115 PD5, 116 PD6, 117 PD7, 118 PB3, 119 PB4, 120 PB5, 121 PB6, 122 PB7, 123 PB8-BOOT0, 124 PB9, 125 PE0, 126 PE1, 127 VSS, 128 VDD
text: STM32G4

## STM32L031F4P6
designator U?
Access line ultra-low-power 32-bit MCU Arm®-based / Cortex®-M0+, up to 32KB Flash, 8KB SRAM, 1KB EEPROM, ADC; Manufacturer: STMicroelectronics; Manufacturer Part Number: STM32L031F4P6
footprint TSSOP-20 (TSOP, 20-Leads, Body 6,50x4,40mm, Pitch 0,65mm, IPC Medium Density)
pins: 1 BOOT0 (in), 2 PC14-OSC32_IN, 3 PC15-OSC32_OUT, 4 NRST (in), 5 VDDA (power), 6 PA0-CK_IN, 7 PA1, 8 PA2, 9 PA3, 10 PA4, 11 PA5, 12 PA6, 13 PA7, 14 PB1, 15 VSS (power), 16 VDD (power), 17 PA9, 18 PA10, 19 PA13, 20 PA14

## Switch/Button 4 Pin Through Hole_2
designator S2, comment SW1
TS02-66-120-BK-260-LCR-D / 6 x 6 mm, 12 mm Actuator Height, 260 gf, Black, Long Crimped, Through Hole, SPST, Tactile Switch; MF: CUI Devices; SnapEDA_Link: https://www.snapeda.com/parts/TS02-66-120-BK-260-LCR-D/CUI+Devices/view-part/?ref=snap; Package: None; MP: TS02-66-120-BK-260-LCR-D; CUI_purchase_URL: https://www.cuidevices.com/product/switches/tactile-switches/ts02-series?utm_source=snapeda.com&utm_medium=referral&utm_campaign=snapedaBOM; Value: *; Check_prices: https://www.snapeda.com/parts/TS02-66-120-BK-260-LCR-D/CUI+Devices/view-part/?ref=eda; Price: None; Purchase-URL: https://pricing.snapeda.com/search/part/TS02-66-120-BK-260-LCR-D/?ref=eda; Availability: In Stock
footprint Switch/Button 4 Pin Through Hole
pins: 1, 2, 3, 4

## TC2030
designator J?  (no BOM)
Tag-Connect No-Solder SWD Debug Connector DO NOT PLACE; Manufacturer: Tag-Connect; Manufacturer Part Number: TC2030
footprint TC2030-FP
pins: 1 VCC, 2 SWDIO/TMS, 3 NRST, 4 SWCLK/TCK, 5 GND, 6 SWO/TDO

## TC2030-NL
designator J?  (no BOM)
Tag-Connect No-Solder SWD Debug Connector (No Legs) DO NOT PLACE; Manufacturer Part Number: TC2030-NL-FP; Manufacturer: Tag-Connect
footprint TC2030-NL-FP
pins: 1 VCC, 2 SWDIO/TMS, 3 NRST, 4 SWCLK/TCK, 5 GND, 6 SWO/TDO

## TCR3UF09A,LM(CT
designator U?
LDO 900mV 300mA SOT-25-5; Manufacturer: Toshiba; Manufacturer Part Number: TCR3UF09A,LM(CT
footprint SSOP5
pins: 1 VIN, 2 GND, 3 CTRL, 4 NC, 5 VOUT

## TL072CDT
designator U?
Dual JFET Low-Noise Operational Amplifiers; Manufacturer: STMicroelectronics; Manufacturer Part Number: TL072CDT
footprint SOIC-8 (SOIC, 8-Leads, Body 4.91x3.90mm, Pitch 1.27mm, IPC Medium Density)
part A pins: 1 1OUT (out), 2 1IN- (in), 3 1IN+ (in)
part B pins: 5 2IN+ (in), 6 2IN- (in), 7 2OUT (out)
part C pins: 4 VCC-, 8 VCC+

## TLV9161IDBVR
designator U?
TLV916x 16-V, 11-MHz, Rail-to-Rail Input/Output, Low Offset Voltage, Low Noise Op Amp SOT-23-5; Manufacturer: Texas Instruments; Manufacturer Part Number: TLV9161IDBVR
footprint SOT-23-5 (SOT23, 5-Leads, Body 2,90x2,80mm, Pitch 0,95mm, IPC Medium Density)
pins: 1 OUT (out), 2 V-, 3 IN+ (in), 4 IN- (in), 5 V+

## TLV76733QWDRBRQ1
designator U?
1A 3V3 LDO Regulator WSON-8; Manufacturer: Texas Instruments; Manufacturer Part Number: TLV76733QWDRBRQ1
footprint WSON-8-3x3-0.65 (SON, 8-Leads, Body 3.00x3.00mm, Pitch 0.65mm, Thermal Pad 2.33x1.49mm, IPC Medium Density)
pins: 1 OUT (power), 2 NC, 3 SNS (in), 4 GND (power), 5 EN (in), 6 GND (power), 7 NC, 8 IN (power), 9 EP (power)

## TP6841S6
designator U?
40V 0.8A 800kHz Synchronous Step-Down Converter; Manufacturer: TECH PUBLIC; Manufacturer Part Number: TP6841S6
footprint SOT-23-6
pins: 1 BST (out), 2 GND (power), 3 FB (in), 4 EN (in), 5 VIN (power), 6 SW (power)

## TPA3116D2DADR
designator U?
50-W Filter-Free Class-D Stereo Amplifier With AM / Avoidance; Manufacturer: Texas Instruments; Manufacturer Part Number: TPA3116D2DADR
footprint TSSOP32-DAD (TSOP, 32-Leads, Body 11.00x6.10mm, Pitch 0.65mm, IPC Medium Density)
pins: 1 MODSEL, 2 SDZ, 3 FAULTZ, 4 INPR, 5 INNR, 6 PLIMIT, 7 GVDD, 8 GAIN/SLV, 9 GND, 10 INPL, 11 INNL, 12 MUTE, 13 AM2, 14 AM1, 15 AM0, 16 SYNC, 17 AVCC, 18 PVCC, 19 PVCC, 20 BSNL, 21 OUTNL, 22 GND, 23 OUTPL, 24 BSPL, 25 GND, 26 BSNR, 27 OUTNR, 28 GND, 29 OUTPR, 30 BSPR, 31 PVCC, 32 PVCC, 33 PAD
text: TPA3116D2

## TPS54386TPWPRQ1
designator U?
Dual Buck Regulators 4.5-28V, Dual 3A Out 600kHz HTSSOP-14; Manufacturer: Texas Instruments; Manufacturer Part Number: TPS54386TPWPRQ1
footprint HTSSOP-14-EP
pins: 1 PVDD1, 2 BOOT1, 3 SW1, 4 GND, 5 ~{EN1}, 6 ~{EN2}, 7 FB1, 8 FB2, 9 ILIM2, 10 SEQ, 11 BP, 12 SW2, 13 BOOT2, 14 PVDD2, 15 EP

## TPS259472ARPWR
designator U?
2.7-V–23-V, 5.5-A, 28-mΩ True Reverse Current Blocking eFuse with / Input Reverse Polarity Protection; Manufacturer: Texas Instruments; Manufacturer Part Number: TPS259472ARPWR
footprint VQFN-HR-10
pins: 1 EN/UVLO, 2 OVLO/OVCSEL, 3 PG/AUXOFF, 4 PGTH/~{FLT}, 5 IN, 6 OUT, 7 DVDT, 8 GND, 9 ILM, 10 ITIMER

## TS30041-M015QFNR
designator U?
High Efficiency 1A Current-Mode Synchronous Buck Converter, 2.2MHz; Manufacturer: Semtech; Manufacturer Part Number: TS30041-M015QFNR
footprint QFN16-3x3-0.5 (QFN, 16-Leads, Body 3.00x3.00mm, Pitch 0.50mm, Thermal Pad 1.58x1.58mm, IPC Medium Density)
pins: 1 VSW (power), 2 VCC (power), 3 VCC (power), 4 GND (power), 5 FB (in), 6 NC, 7 NC, 8 PG (oc), 9 EN/SYNC (in), 10 BST, 11 VCC (power), 12 VSW (power), 13 VSW (power), 14 PGND (power), 15 PGND (power), 16 VSW (power), 17 EPAD (power)

## TS-1187A-B-A-B
designator S?
Switch; Manufacturer_Name: XKB Connectivity; Manufacturer_Part_Number: TS-1187A-B-A-B; Description: tact switch 4x4X1.5 patch 160GF metal head waterproof; Datasheet Link: http://www.helloxkb.com/public/images/pdf/TS-1187A-X-X-X.pdf; Height: 4.05mm
footprint TS1187ABAB
pins: A1 COM_1, B1 COM_2, C1 NO_1, D1 NO_2

## TSW-108-08-G-T-RA
designator J?
Header 24 Position 3 Rows 2.54mm Pitch Right Angle; Manufacturer: Samtec; Manufacturer Part Number: TSW-108-08-G-T-RA
footprint TSW-108-08-G-T-RA
part A pins: 1A, 2A, 3A, 4A, 5A, 6A, 7A, 8A
part B pins: 1B, 2B, 3B, 4B, 5B, 6B, 7B, 8B
part C pins: 1C, 2C, 3C, 4C, 5C, 6C, 7C, 8C

## TSX-3225_24.0000MF15X-AC
designator Y?, comment 24MHz
Crystal SMD 24MHz 10PPM 7pF 3225; Manufacturer: Epson; Manufacturer Number: TSX-3225 24.0000MF15X-AC; ESR: 40R; Value: 24MHz; Type: XTAL; Load Capacitance: 7pF
footprint XTAL_3225
pins: 1, 2, 3, 4

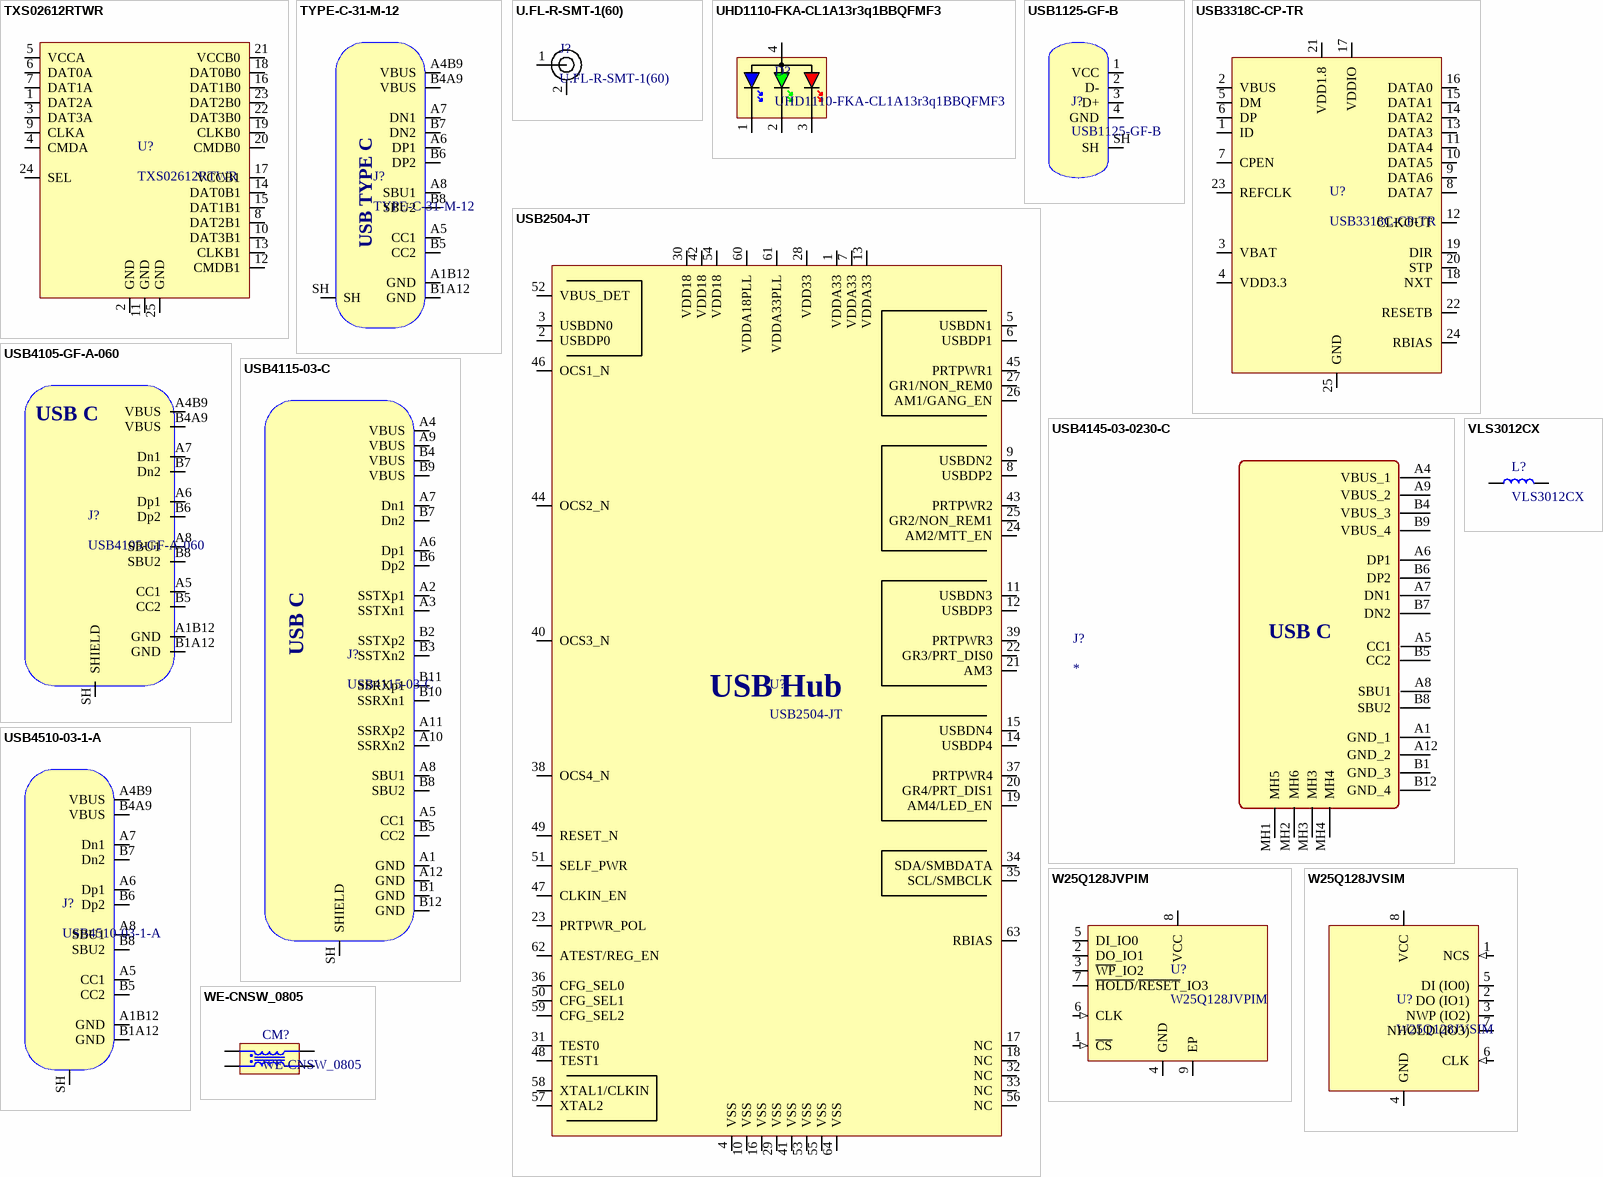
[diagram p10: symbols TXS02612RTWR to WE-CNSW_0805]

## TXS02612RTWR
designator U?
SDIO PORT EXPANDER WITH VOLTAGE-LEVEL TRANSLATION; Manufacturer: Texas Instruments; Manufacturer Part Number: TXS02612RTWR
footprint QFN50P400X400X80_HS-25N (QFN, 24-Leads, Body 4.00x4.00mm, Pitch 0.50mm, Thermal Pad 2.50x2.50mm, IPC Medium Density)
pins: 1 DAT2A, 2 GND, 3 DAT3A, 4 CMDA, 5 VCCA, 6 DAT0A, 7 DAT1A, 8 DAT2B1, 9 CLKA, 10 DAT3B1, 11 GND, 12 CMDB1, 13 CLKB1, 14 DAT0B1, 15 DAT1B1, 16 DAT1B0, 17 VCCB1, 18 DAT0B0, 19 CLKB0, 20 CMDB0, 21 VCCB0, 22 DAT3B0, 23 DAT2B0, 24 SEL, 25 GND

## TYPE-C-31-M-12
designator J?
USB Type C Connector Horizontal SMT; Manufacturer: Koren Hroparts; Manufacturer Part Number: TYPE-C-31-M-12
footprint TYPE-C-31-M-12
pins: A1B12 GND (power), A4B9 VBUS (power), A5 CC1, A6 DP1 (io), A7 DN1 (io), A8 SBU1 (io), B1A12 GND (power), B4A9 VBUS (power), B5 CC2 (hiz), B6 DP2 (io), B7 DN2 (io), B8 SBU2 (io), SH (power)
text: USB TYPE C

## U.FL-R-SMT-1(60)
designator J?
RF Connector u.FL 50 Ohms 6 GHz; Manufacturer: Hirose Connector; Manufacturer Part Number: U.FL-R-SMT-1(60)
footprint U.FL-R-SMT-1(60)
pins: 1, 2

## UHD1110-FKA-CL1A13r3q1BBQFMF3
designator D?
RGB LED If=10mA Vf=1.9,2.9,2.9; Manufacturer: Cree; Manufacturer Part Number: UHD1110-FKA-CL1A13r3q1BBQFMF3
footprint UHD1110-FKA-CL1A13r3q1BBQFMF3
pins: 1, 2, 3, 4

## USB1125-GF-B
designator J?
USB Connector Type A 2.0 Through-Hole; Manufacturer: GCT; Manufacturer Part Number: USB1125-GF-B
footprint USB1125-GF-B
pins: 1 VCC, 2 D-, 3 D+, 4 GND, SH

## USB2504-JT
designator U?
USB 2.0 4 Port Hub TQFP-64; Manufacturer: Microchip; Manufacturer Part Number: USB2504-JT
footprint TQFP-64-0.5 (TSQFP, 64-Leads, Body 10,00x10,00mm, Pitch 0,50mm, IPC Medium Density)
pins: 1 VDDA33, 2 USBDP0, 3 USBDN0, 4 VSS, 5 USBDN1, 6 USBDP1, 7 VDDA33, 8 USBDP2, 9 USBDN2, 10 VSS, 11 USBDN3, 12 USBDP3, 13 VDDA33, 14 USBDP4, 15 USBDN4, 16 VSS, 17 NC, 18 NC, 19 AM4/LED_EN, 20 GR4/PRT_DIS1, 21 AM3, 22 GR3/PRT_DIS0, 23 PRTPWR_POL, 24 AM2/MTT_EN, 25 GR2/NON_REM1, 26 AM1/GANG_EN, 27 GR1/NON_REM0, 28 VDD33, 29 VSS, 30 VDD18, 31 TEST0, 32 NC, 33 NC, 34 SDA/SMBDATA, 35 SCL/SMBCLK, 36 CFG_SEL0, 37 PRTPWR4, 38 OCS4_N, 39 PRTPWR3, 40 OCS3_N, 41 VSS, 42 VDD18, 43 PRTPWR2, 44 OCS2_N, 45 PRTPWR1, 46 OCS1_N, 47 CLKIN_EN, 48 TEST1, 49 RESET_N, 50 CFG_SEL1, 51 SELF_PWR, 52 VBUS_DET, 53 VSS, 54 VDD18, 55 VSS, 56 NC, 57 XTAL2, 58 XTAL1/CLKIN, 59 CFG_SEL2, 60 VDDA18PLL, 61 VDDA33PLL, 62 ATEST/REG_EN, 63 RBIAS, 64 VSS
text: USB Hub

## USB3318C-CP-TR
designator U?
USB Interface IC High Speed USB 1.8V ULPI; Manufacturer: Microchip; Manufacturer Part Number: USB3318C-CP-TR
footprint QFN50P400X400X100_HS-25N (QFN, 24-Leads, Body 4.00x4.00mm, Pitch 0.50mm, Thermal Pad 2.50x2.50mm, IPC Medium Density)
pins: 1 ID, 2 VBUS, 3 VBAT, 4 VDD3.3, 5 DM, 6 DP, 7 CPEN, 8 DATA7, 9 DATA6, 10 DATA5, 11 DATA4, 12 CLKOUT, 13 DATA3, 14 DATA2, 15 DATA1, 16 DATA0, 17 VDDIO, 18 NXT, 19 DIR, 20 STP, 21 VDD1.8, 22 RESETB, 23 REFCLK, 24 RBIAS, 25 GND

## USB4105-GF-A-060
designator J?
USB Connector Type C SMT 12 Pin; Manufacturer: GCT; Manufacturer Part Number: USB4105-GF-A-060
footprint USB4105-GF-A-060
pins: A1B12 GND, A4B9 VBUS, A5 CC1, A6 Dp1, A7 Dn1, A8 SBU1, B1A12 GND, B4A9 VBUS, B5 CC2, B6 Dp2, B7 Dn2, B8 SBU2, SH SHIELD
text: USB C

## USB4115-03-C
designator J?
USB Connector Type C Vertical 24 Position 5A USB 3.2 Gen 2; Manufacturer: GCT; Manufacturer Part Number: USB4115-03-C
footprint USB4115-03-C
pins: A1 GND, A2 SSTXp1, A3 SSTXn1, A4 VBUS, A5 CC1, A6 Dp1, A7 Dn1, A8 SBU1, A9 VBUS, A10 SSRXn2, A11 SSRXp2, A12 GND, B1 GND, B2 SSTXp2, B3 SSTXn2, B4 VBUS, B5 CC2, B6 Dp2, B7 Dn2, B8 SBU2, B9 VBUS, B10 SSRXn1, B11 SSRXp1, B12 GND, SH SHIELD
text: USB C

## USB4145-03-0230-C
designator J?
Connector; Manufacturer_Name: GCT (GLOBAL CONNECTOR TECHNOLOGY); Manufacturer_Part_Number: USB4145-03-0230-C; Datasheet Link: https://gct.co/newark/connector/USB4145; Height: 7.66mm; Mouser Part Number: 640-USB4145-3-0230-C; Mouser Price/Stock: https://www.mouser.co.uk/ProductDetail/GCT/USB4145-03-0230-C?qs=vvQtp7zwQdObw3D6iVsXIA%3D%3D
footprint USB4145030230C
pins: A1 GND_1, A4 VBUS_1, A5 CC1, A6 DP1, A7 DN1, A8 SBU1, A9 VBUS_2, A12 GND_2, B1 GND_3, B4 VBUS_3, B5 CC2, B6 DP2, B7 DN2, B8 SBU2, B9 VBUS_4, B12 GND_4, MH1 MH5, MH2 MH6, MH3, MH4
text: USB C

## USB4510-03-1-A
designator J?
USB Connector Type C SMT Mid-Mount 16 Pin; Manufacturer: GCT; Manufacturer Part Number: USB4510-03-1-A
footprint USB4510-03-1-A
pins: A1B12 GND, A4B9 VBUS, A5 CC1, A6 Dp1, A7 Dn1, A8 SBU1, B1A12 GND, B4A9 VBUS, B5 CC2, B6 Dp2, B7 Dn2, B8 SBU2, SH SHIELD

## VLS3012CX
designator L?
Inductor SMD VLS3012CX TDK Shielded 3x3x1.2mm; Manufacturer: TDK; Manufacturer Part Number: VLS3012CX
footprint VLS3012CX
pins: 1, 2

## W25Q128JVPIM
designator U?
3V 128M-BIT / SERIAL FLASH MEMORY WITH / DUAL/QUAD SPI & QPI & DTR WSON-8; Manufacturer: Winbond; Manufacturer Part Number: W25Q128JVPIM
footprint WSON-8-8X6 (8-Pad WSON 8x6-mm (Package Code E) (Winbond))
pins: 1 ~{CS} (in), 2 DO_IO1 (io), 3 ~{WP}_IO2 (io), 4 GND (power), 5 DI_IO0 (io), 6 CLK (in), 7 ~{HOLD}/~{RESET}_IO3 (io), 8 VCC (power), 9 EP (power)

## W25Q128JVSIM
designator U?
128M-BIT / SERIAL FLASH MEMORY WITH / DUAL/QUAD SPI & QPI & DTR SOIC-8; Manufacturer: Winbond; Manufacturer Part Number: W25Q128JVSIM
footprint SOIC-8 (SOIC, 8-Leads, Body 4.91x3.90mm, Pitch 1.27mm, IPC Medium Density)
pins: 1 NCS (in), 2 DO (IO1) (io), 3 NWP (IO2) (io), 4 GND (power), 5 DI (IO0) (io), 6 CLK (in), 7 NHOLD (IO3) (io), 8 VCC (power)

## WE-CNSW_0805
designator CM?
Common Mode Choke Wurth CNSW 0805; Manufacturer: Wurth Elektronik; Manufacturer Part Number: *
footprint WE-CNSW_0805
pins: 1, 2, 3, 4

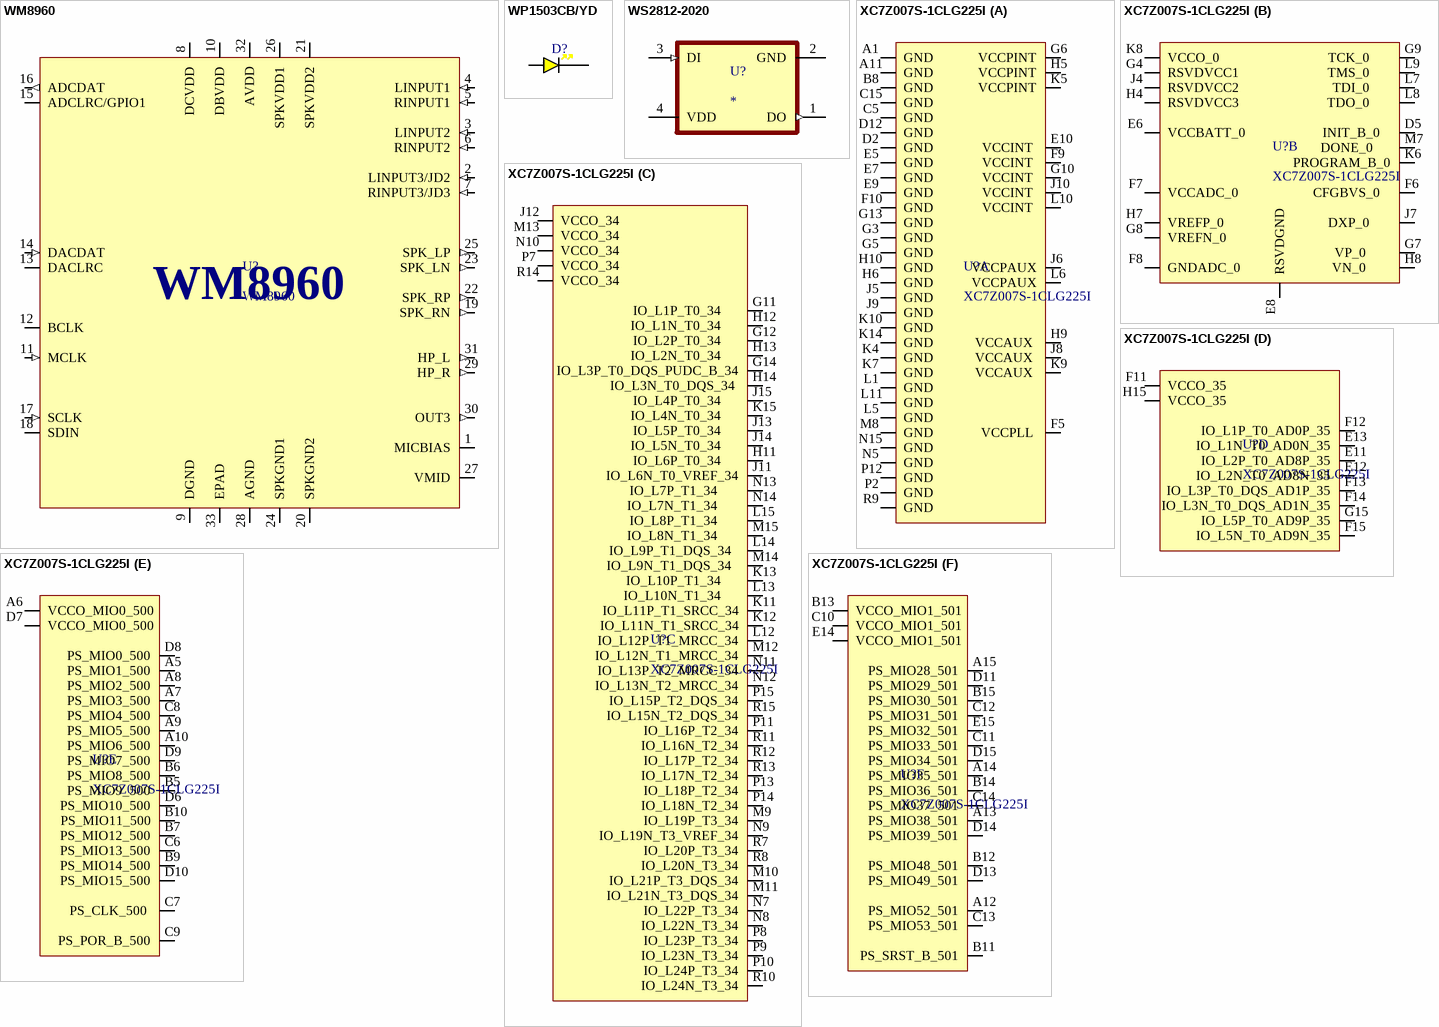
[diagram p11: symbols WM8960 to XC7Z007S-1CLG225I]

## WM8960
designator U?
Stereo CODEC with 1W Stereo Class D Speaker Drivers and / Headphone Drivers for Portable Audio Applications; Manufacturer: Wolfson; Manufacturer Part Number: WM8960CGEFL/RV
footprint QFN32-5x5-0.5
pins: 1 MICBIAS (power), 2 LINPUT3/JD2 (in), 3 LINPUT2 (in), 4 LINPUT1 (in), 5 RINPUT1 (in), 6 RINPUT2 (in), 7 RINPUT3/JD3 (in), 8 DCVDD (power), 9 DGND (power), 10 DBVDD (power), 11 MCLK (in), 12 BCLK (io), 13 DACLRC (io), 14 DACDAT (in), 15 ADCLRC/GPIO1 (io), 16 ADCDAT (out), 17 SCLK (in), 18 SDIN (io), 19 SPK_RN (out), 20 SPKGND2 (power), 21 SPKVDD2 (power), 22 SPK_RP (out), 23 SPK_LN (out), 24 SPKGND1 (power), 25 SPK_LP (out), 26 SPKVDD1 (power), 27 VMID (power), 28 AGND (power), 29 HP_R (out), 30 OUT3 (out), 31 HP_L (out), 32 AVDD (power), 33 EPAD (power)

## WP1503CB/YD
designator D?  (value not drawn)
LED Circuit Board Indicators Yellow 588nm Diffused 20mcd; Manufacturer: Kingbright; Manufacturer Part Number: WP1503CB/YD
footprint WP1503CBYD
pins: A, K

## WS2812-2020
designator U?
Intelligent control LED integrated light source; MP: WS2812-2020; Price: None; Package: None; Availability: Unavailable; Value: *
footprint LED_WS2812-2020
pins: 1 DO (out), 2 GND (power), 3 DI (in), 4 VDD (power)

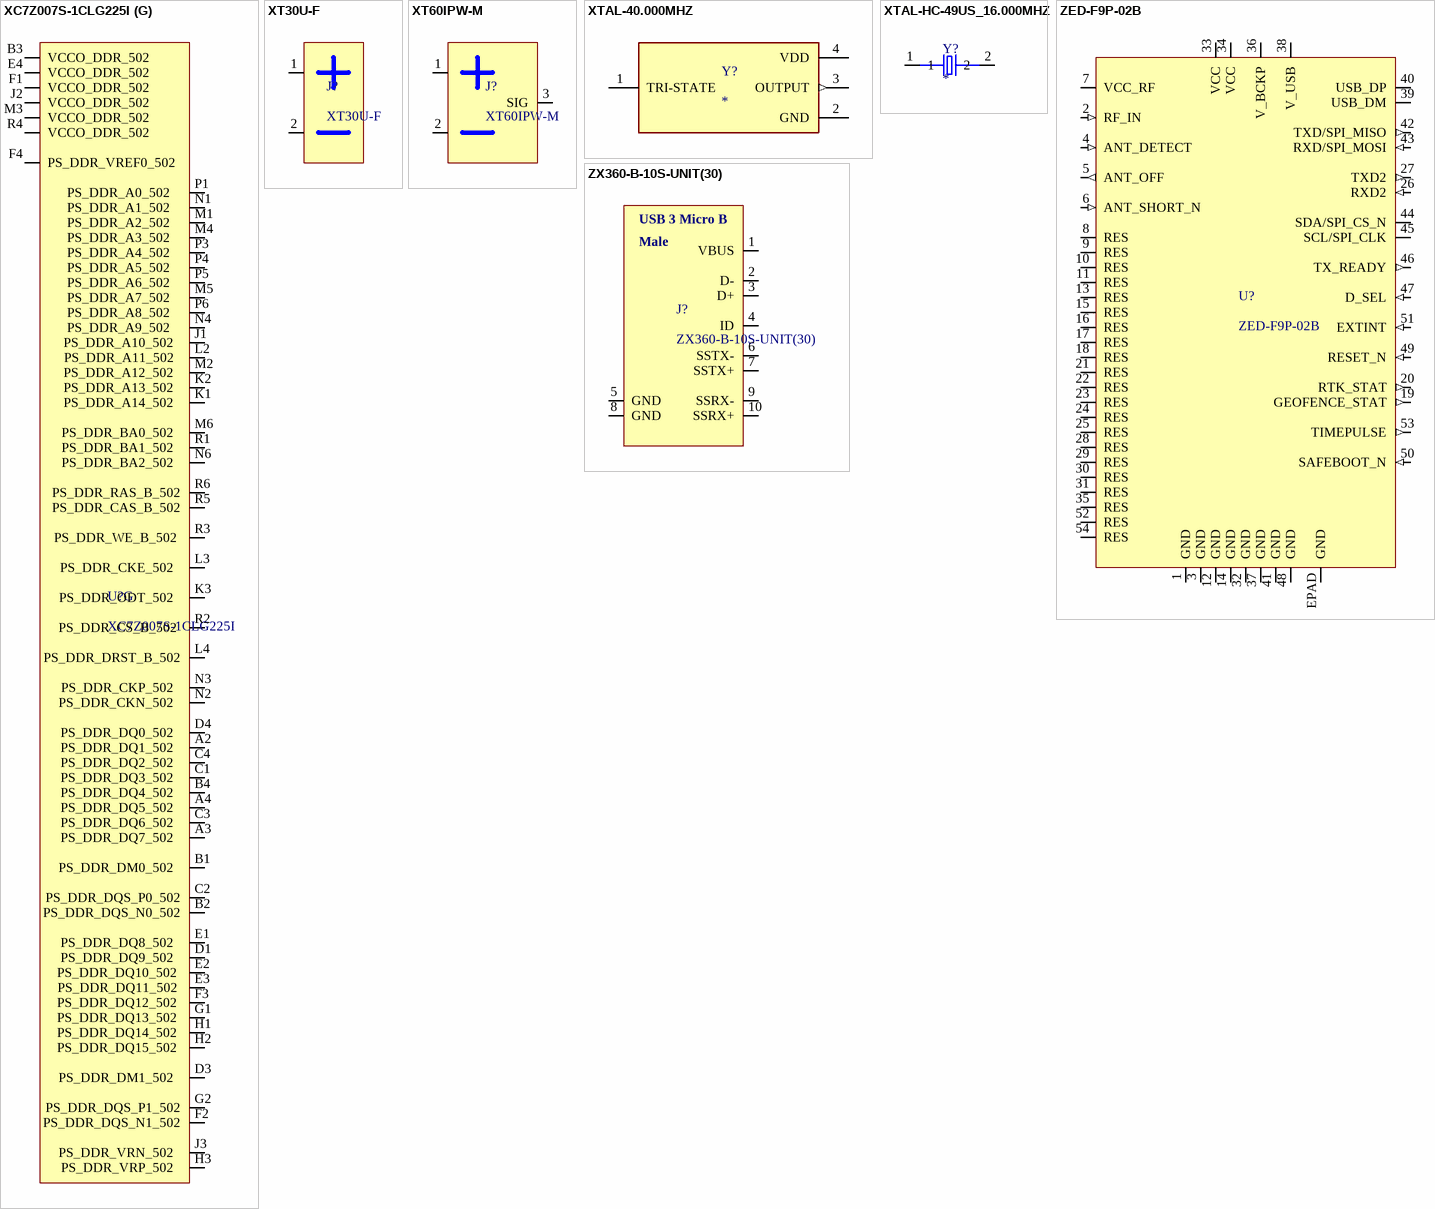
[diagram p12: symbols XC7Z007S-1CLG225I to ZX360-B-10S-UNIT(30)]

## XC7Z007S-1CLG225I
designator U?
Xilinx FPGA SoC Zynq 7-Series XC7Z007S CLG255 Package Industrial Temperature Grade; Manufacturer: Xilinx; Manufacturer Part Number: XC7Z007S-1CLG225I
footprint CLG225 (BGA, 225-Leads, Body 13.00x13.00mmx1.50mm, Pitch 0.80mm)
part A pins: A1    GND    , A11   GND    , B8    GND    , C5    GND    , C15   GND    , D2    GND    , D12   GND    , E5    GND    , E7    GND    , E9    GND    , E10   VCCINT , F5    VCCPLL , F9    VCCINT , F10   GND    , G3    GND    , G5    GND    , G6    VCCPINT, G10   VCCINT , G13   GND    , H5    VCCPINT, H6    GND    , H9    VCCAUX , H10   GND    , J5    GND    , J6    VCCPAUX, J8    VCCAUX , J9    GND    , J10   VCCINT , K4    GND    , K5    VCCPINT, K7    GND    , K9    VCCAUX , K10   GND    , K14   GND    , L1    GND    , L5    GND    , L6    VCCPAUX, L10   VCCINT , L11   GND    , M8    GND    , N5    GND    , N15   GND    , P2    GND    , P12   GND    , R9    GND    
part B pins: D5    INIT_B_0   , E6    VCCBATT_0  , E8    RSVDGND    , F6    CFGBVS_0   , F7    VCCADC_0   , F8    GNDADC_0   , G4    RSVDVCC1   , G7    VP_0       , G8    VREFN_0    , G9    TCK_0      , H4    RSVDVCC3   , H7    VREFP_0    , H8    VN_0       , J4    RSVDVCC2   , J7    DXP_0      , K6    PROGRAM_B_0, K8    VCCO_0, L7    TDI_0      , L8    TDO_0      , L9    TMS_0      , M7    DONE_0     
part C pins: G11   IO_L1P_T0_34     , G12   IO_L2P_T0_34     , G14   IO_L3P_T0_DQS_PUDC_B_34, H11   IO_L6P_T0_34     , H12   IO_L1N_T0_34     , H13   IO_L2N_T0_34     , H14   IO_L3N_T0_DQS_34 , J11   IO_L6N_T0_VREF_34, J12   VCCO_34, J13   IO_L5P_T0_34     , J14   IO_L5N_T0_34     , J15   IO_L4P_T0_34     , K11   IO_L11P_T1_SRCC_34, K12   IO_L11N_T1_SRCC_34, K13   IO_L10P_T1_34     , K15   IO_L4N_T0_34     , L12   IO_L12P_T1_MRCC_34, L13   IO_L10N_T1_34     , L14   IO_L9P_T1_DQS_34  , L15   IO_L8P_T1_34      , M9    IO_L19P_T3_34, M10   IO_L21P_T3_DQS_34, M11   IO_L21N_T3_DQS_34, M12   IO_L12N_T1_MRCC_34, M13   VCCO_34, M14   IO_L9N_T1_DQS_34  , M15   IO_L8N_T1_34      , N7    IO_L22P_T3_34, N8    IO_L22N_T3_34, N9    IO_L19N_T3_VREF_34, N10   VCCO_34, N11   IO_L13P_T2_MRCC_34, N12   IO_L13N_T2_MRCC_34, N13   IO_L7P_T1_34      , N14   IO_L7N_T1_34      , P7    VCCO_34, P8    IO_L23P_T3_34, P9    IO_L23N_T3_34, P10   IO_L24P_T3_34, P11   IO_L16P_T2_34, P13   IO_L18P_T2_34, P14   IO_L18N_T2_34, P15   IO_L15P_T2_DQS_34, R7    IO_L20P_T3_34, R8    IO_L20N_T3_34, R10   IO_L24N_T3_34, R11   IO_L16N_T2_34, R12   IO_L17P_T2_34, R13   IO_L17N_T2_34, R14   VCCO_34, R15   IO_L15N_T2_DQS_34
part D pins: E11   IO_L2P_T0_AD8P_35, E12   IO_L2N_T0_AD8N_35, E13   IO_L1N_T0_AD0N_35, F11   VCCO_35, F12   IO_L1P_T0_AD0P_35, F13   IO_L3P_T0_DQS_AD1P_35, F14   IO_L3N_T0_DQS_AD1N_35, F15   IO_L5N_T0_AD9N_35, G15   IO_L5P_T0_AD9P_35, H15   VCCO_35
part E pins: A5    PS_MIO1_500, A6    VCCO_MIO0_500, A7    PS_MIO3_500, A8    PS_MIO2_500, A9    PS_MIO5_500, A10   PS_MIO6_500, B5    PS_MIO9_500, B6    PS_MIO8_500, B7    PS_MIO12_500, B9    PS_MIO14_500, B10   PS_MIO11_500, C6    PS_MIO13_500, C7    PS_CLK_500 , C8    PS_MIO4_500, C9    PS_POR_B_500, D6    PS_MIO10_500, D7    VCCO_MIO0_500, D8    PS_MIO0_500, D9    PS_MIO7_500, D10   PS_MIO15_500
part F pins: A12   PS_MIO52_501, A13   PS_MIO38_501, A14   PS_MIO35_501, A15   PS_MIO28_501, B11   PS_SRST_B_501, B12   PS_MIO48_501, B13   VCCO_MIO1_501, B14   PS_MIO36_501, B15   PS_MIO30_501, C10   VCCO_MIO1_501, C11   PS_MIO33_501, C12   PS_MIO31_501, C13   PS_MIO53_501, C14   PS_MIO37_501, D11   PS_MIO29_501, D13   PS_MIO49_501, D14   PS_MIO39_501, D15   PS_MIO34_501, E14   VCCO_MIO1_501, E15   PS_MIO32_501
part G pins: A2    PS_DDR_DQ1_502  , A3    PS_DDR_DQ7_502  , A4    PS_DDR_DQ5_502  , B1    PS_DDR_DM0_502  , B2    PS_DDR_DQS_N0_502, B3    VCCO_DDR_502, B4    PS_DDR_DQ4_502  , C1    PS_DDR_DQ3_502  , C2    PS_DDR_DQS_P0_502, C3    PS_DDR_DQ6_502  , C4    PS_DDR_DQ2_502  , D1    PS_DDR_DQ9_502  , D3    PS_DDR_DM1_502  , D4    PS_DDR_DQ0_502  , E1    PS_DDR_DQ8_502  , E2    PS_DDR_DQ10_502 , E3    PS_DDR_DQ11_502 , E4    VCCO_DDR_502, F1    VCCO_DDR_502, F2    PS_DDR_DQS_N1_502, F3    PS_DDR_DQ12_502 , F4    PS_DDR_VREF0_502, G1    PS_DDR_DQ13_502 , G2    PS_DDR_DQS_P1_502, H1    PS_DDR_DQ14_502 , H2    PS_DDR_DQ15_502 , H3    PS_DDR_VRP_502  , J1    PS_DDR_A10_502  , J2    VCCO_DDR_502, J3    PS_DDR_VRN_502  , K1    PS_DDR_A14_502  , K2    PS_DDR_A13_502  , K3    PS_DDR_ODT_502  , L2    PS_DDR_A11_502  , L3    PS_DDR_CKE_502  , L4    PS_DDR_DRST_B_502, M1    PS_DDR_A2_502   , M2    PS_DDR_A12_502  , M3    VCCO_DDR_502, M4    PS_DDR_A3_502   , M5    PS_DDR_A7_502   , M6    PS_DDR_BA0_502  , N1    PS_DDR_A1_502   , N2    PS_DDR_CKN_502  , N3    PS_DDR_CKP_502  , N4    PS_DDR_A9_502   , N6    PS_DDR_BA2_502  , P1    PS_DDR_A0_502   , P3    PS_DDR_A4_502   , P4    PS_DDR_A5_502   , P5    PS_DDR_A6_502   , P6    PS_DDR_A8_502   , R1    PS_DDR_BA1_502  , R2    PS_DDR_CS_B_502 , R3    PS_DDR_WE_B_502 , R4    VCCO_DDR_502, R5    PS_DDR_CAS_B_502, R6    PS_DDR_RAS_B_502

## XT30U-F
designator J?
XT30 female 15A 2-pin AMASS; Manufacturer: AMASS; Manufacturer Part Number: XT30U-F
footprint XT30U-F
pins: 1 V+ (power), 2 V- (power)

## XT60IPW-M
designator J?
XT60 male 30A 3-pin AMASS; Manufacturer: AMASS; Manufacturer Part Number: XT60IPW-M
footprint XT60IPW-M
pins: 1 V+ (power), 2 V- (power), 3 SIG

## XTAL-40.000MHZ
designator Y?
ASFL1-40.000MHZ-EK-T; Value: *; Package: None; Price: None; MP: ASFL1-40.000MHZ-EK-T; Availability: Unavailable
footprint XTAL_ASFL1-40.000MHZ-EK-T
pins: 1 TRI-STATE, 2 GND (power), 3 OUTPUT (out), 4 VDD (power)

## XTAL-HC-49US_16.000MHZ
designator Y?
16 MHz Â±30ppm Crystal 18pF 50 Ohms HC-49/US; MF: Citizen FineDevice; MP: HC49US-16.000MABJ-UB; Price: None; Check_prices: https://www.snapeda.com/parts/HC49US-16.000MABJ-UB/Citizen%20Finedevice%20Co%20Ltd/view-part/106332/?ref=eda; SnapEDA_Link: https://www.snapeda.com/parts/HC49US-16.000MABJ-UB/Citizen%20Finedevice%20Co%20Ltd/view-part/106332/?ref=snap; Package: HC-49/US Citizen Finetech Miyota; Availability: Not in stock; Value: *
footprint XTAL_HC-49US-16.000MHZ
pins: 1, 2

## ZED-F9P-02B
designator U?
Multi-Band High-Precision GNSS Receiver u-blox; Manufacturer: u-blox; Manufacturer Part Number: ZED-F9P-02B
footprint ZED-F9P-02B
pins: 1 GND (power), 2 RF_IN (in), 3 GND (power), 4 ANT_DETECT (in), 5 ANT_OFF (out), 6 ANT_SHORT_N (in), 7 VCC_RF (power), 8 RES, 9 RES, 10 RES, 11 RES, 12 GND (power), 13 RES, 14 GND (power), 15 RES, 16 RES, 17 RES, 18 RES, 19 GEOFENCE_STAT (out), 20 RTK_STAT (out), 21 RES, 22 RES, 23 RES, 24 RES, 25 RES, 26 RXD2 (in), 27 TXD2 (out), 28 RES, 29 RES, 30 RES, 31 RES, 32 GND (power), 33 VCC (power), 34 VCC (power), 35 RES, 36 V_BCKP (power), 37 GND (power), 38 V_USB (power), 39 USB_DM (io), 40 USB_DP (io), 41 GND (power), 42 TXD/SPI_MISO (out), 43 RXD/SPI_MOSI (in), 44 SDA/SPI_CS_N (io), 45 SCL/SPI_CLK (io), 46 TX_READY (out), 47 D_SEL (in), 48 GND (power), 49 RESET_N (in), 50 SAFEBOOT_N (in), 51 EXTINT (in), 52 RES, 53 TIMEPULSE (out), 54 RES, EPAD GND

## ZX360-B-10S-UNIT(30)
designator J?
USB 3 Micro B Plug Connector SMT; Manufacturer: Hirose; Manufacturer Part Number: ZX360-B-10S-UNIT(30)
footprint ZX360-B-10S-UNIT(30)
pins: 1 VBUS, 2 D-, 3 D+, 4 ID, 5 GND, 6 SSTX-, 7 SSTX+, 8 GND, 9 SSRX-, 10 SSRX+
text: USB 3 Micro B; Male